# Altium integrated library STMicroelectronics STM32 F2.IntLib: 94 symbols (part 17 of 18)
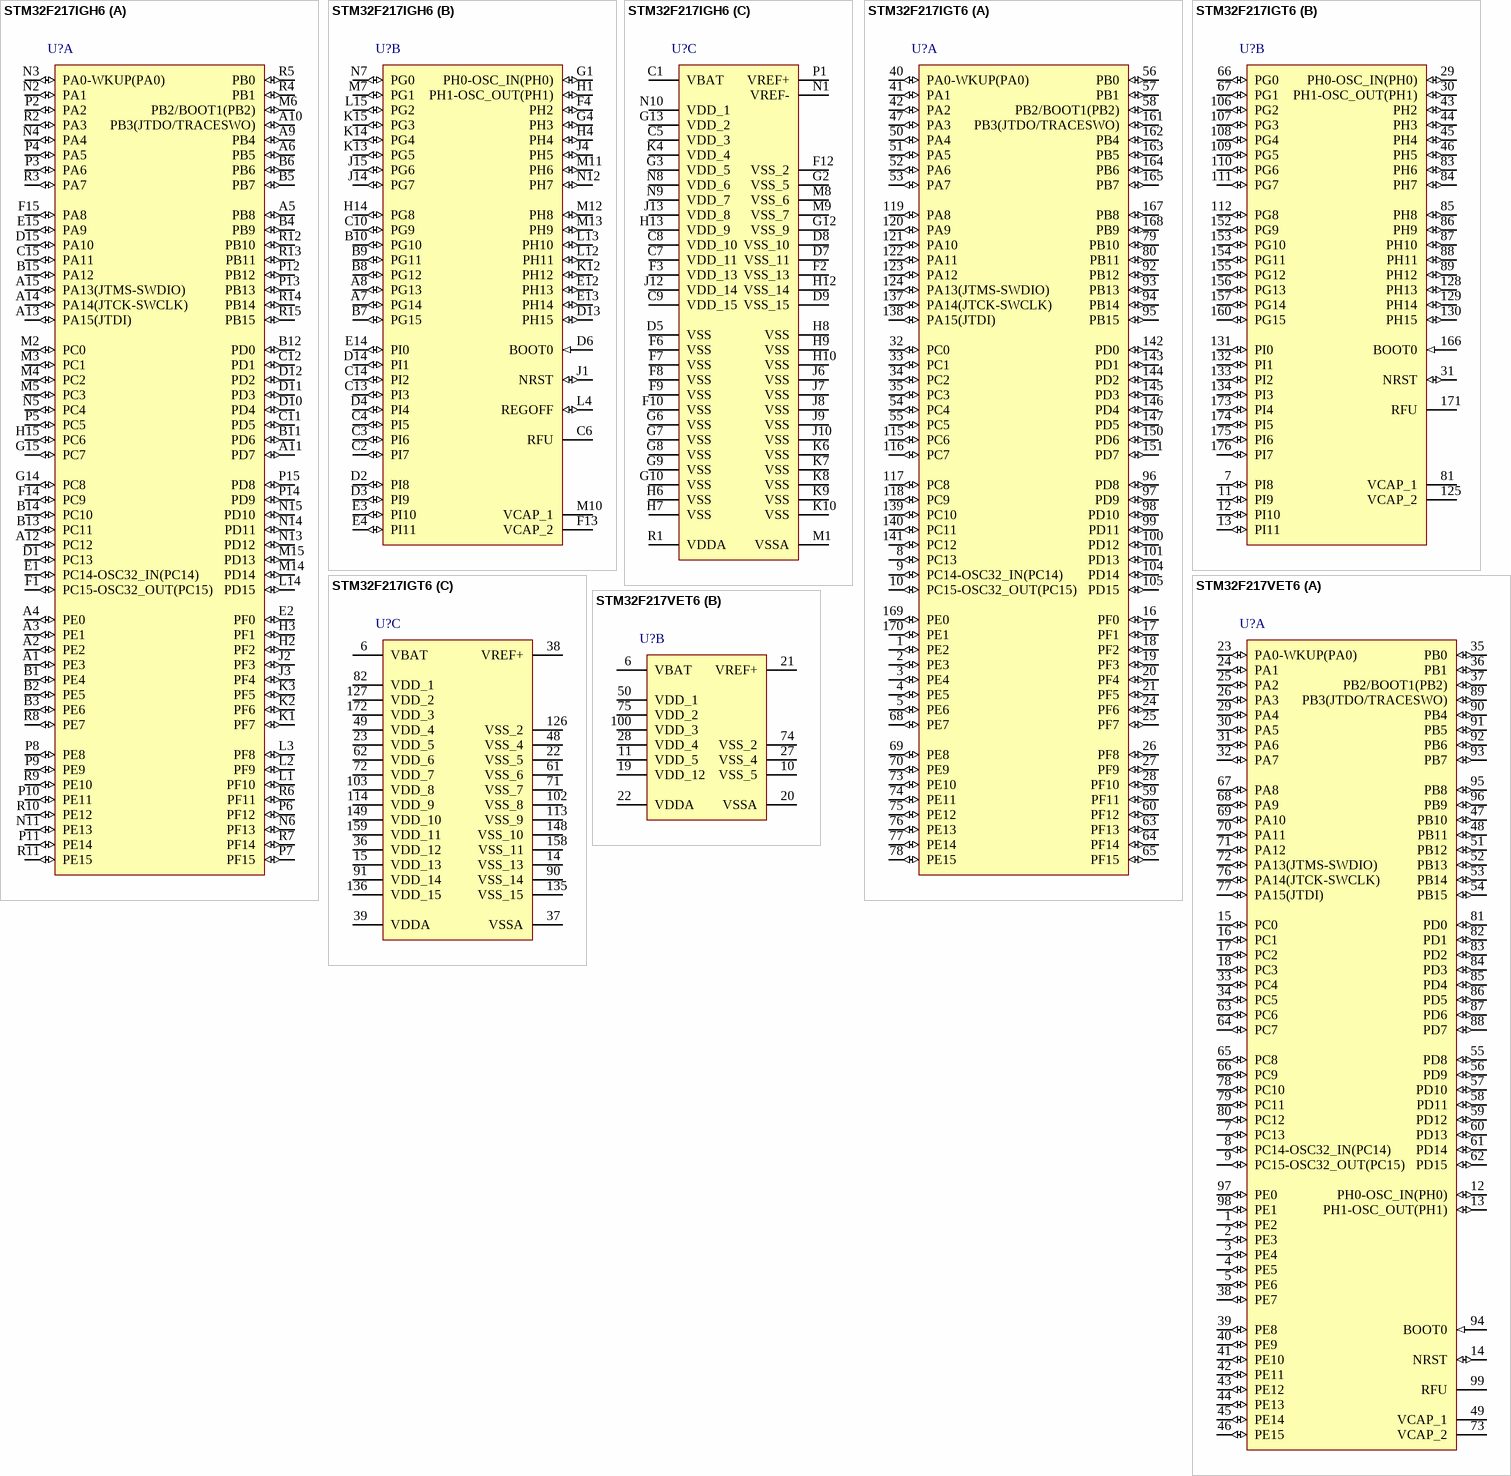
[diagram p40: symbols STM32F217IGH6 to STM32F217VET6]

## STM32F217VET6
designator U?
ARM Cortex-M3 32-bit MCU, 512 KB Flash, 128 KB Internal RAM, 82 I/Os, 100-pin LQFP, -40 to 85 degC, Tray; PartNumber: STM32F217VET6; D/A Converter: 2x12-bit (2 Channel); FLASH Size (Prog) (kB): 512; I/Os (High Current): 82; Internal RAM Size (kB): 128; Operating Frequency(F) (Processor speed) (MHz): 120; Supply Voltage(Vcc) min (V): 1.8; DatasheetVersion: Rev. 8; PackageVersion: Rev. 1, 06/2013; PackageReference: LQFP100; PackageDescription: 100-Pin Low Profile Quad Flat Package, 14 x 14 mm Body, 0.5 mm Pitch; Supplier 1: Digi-Key; Supplier Part Number 1: 497-11186-ND; Supplier 2: Farnell; Supplier Part Number 2: 2333243; Supplier 3: Newark; Supplier Part Number 3: 99W9861; Supplier 4: Newark; Supplier Part Number 4: 47T9357; Supplier 5: Mouser; Supplier Part Number 5: 511-STM32F217VET6; Core: ARM Cortex-M3; Packing: Tray; Mounting Technology: Surface Mount; ComponentLink1Description: Manufacturer URL; ComponentLink1URL: http://www.st.com/web/en/home.html; ComponentLink2Description: Datasheet; ComponentLink2URL: http://www.st.com/st-web-ui/static/active/en/resource/technical/document/datasheet/CD00263874.pdf; ComponentLink3Description: Package Specification; ComponentLink3URL: http://www.st.com/st-web-ui/static/active/en/resource/technical/document/data_brief/DM00071938.pdf
footprint STM-LQFP100_N (Thin QFP, 100-Leads, Body 14x14mm, Pitch 0.5mm, IPC Medium Density)
footprint STM-LQFP100_L (Thin QFP, 100-Leads, Body 14x14mm, Pitch 0.5mm, IPC High Density)
footprint STM-LQFP100_M (Thin QFP, 100-Leads, Body 14x14mm, Pitch 0.5mm, IPC Low Density)
footprint STM-LQFP100_V (Thin QFP, 100-Leads, Body 14x14mm, Pitch 0.5mm, ST Recommended)
part A pins: 1 PE2 (io) "PE2/TRACECLK/FSMC_A23/ETH_MII_TXD3/EVENTOUT", 2 PE3 (io) "PE3/TRACED0/FSMC_A19/EVENTOUT", 3 PE4 (io) "PE4/TRACED1/FSMC_A20/DCMI_D4/EVENTOUT", 4 PE5 (io) "PE5/TRACED2/FSMC_A21/TIM9_CH1/DCMI_D6/EVENTOUT", 5 PE6 (io) "PE6/TRACED3/FSMC_A22/TIM9_CH2/DCMI_D7/EVENTOUT", 7 PC13 (io) "PC13/EVENTOUT/RTC_AF1", 8 PC14-OSC32_IN(PC14) (io) "PC14-OSC32_IN/PC14/EVENTOUT/OSC32_IN", 9 PC15-OSC32_OUT(PC15) (io) "PC15-OSC32_OUT/PC15/EVENTOUT/OSC32_OUT", 12 PH0-OSC_IN(PH0) (io) "PH0-OSC_IN(PH0)/PH0/EVENTOUT/OSC_IN", 13 PH1-OSC_OUT(PH1) (io) "PH1-OSC_OUT(PH1)/PH1/EVENTOUT/OSC_OUT", 14 NRST (io), 15 PC0 (io) "PC0/OTG_HS_ULPI_STP/EVENTOUT/ADC123_IN10", 16 PC1 (io) "PC1/ETH_MDC/EVENTOUT/ADC123_IN11", 17 PC2 (io) "PC2/SPI2_MISO/OTG_HS_ULPI_DIR/ETH_MII_TXD2/EVENTOUT/ADC123_IN12", 18 PC3 (io) "PC3/SPI2_MOSI/I2S2_SD/OTG_HS_ULPI_NXT/ETH_MII_TX_CLK/EVENTOUT/ADC123_IN13", 23 PA0-WKUP(PA0) (io) "PA0-WKUP(PA0)/USART2_CTS/UART4_TX/ETH_MII_CRS/TIM2_CH1_ETR/TIM5_CH1/TIM8_ETR/EVENTOUT/ADC123_IN0/WKUP", 24 PA1 (io) "PA1/USART2_RTS/UART4_RX/ETH_RMII_REF_CLK/ETH_MII_RX_CLK/TIM5_CH2/TIM2_CH2/EVENTOUT/ADC123_IN1", 25 PA2 (io) "PA2/USART2_TX/TIM5_CH3/TIM9_CH1/TIM2_CH3/ETH_MDIO/EVENTOUT/ADC123_IN2", 26 PA3 (io) "PA3/USART2_RX/TIM5_CH4/TIM9_CH2/TIM2_CH4/OTG_HS_ULPI_D0/ETH_MII_COL/EVENTOUT/ADC123_IN3", 29 PA4 (io) "PA4/SPI1_NSS/SPI3_NSS/USART2_CK/DCMI_HSYNC/OTG_HS_SOF/I2S3_WS/EVENTOUT/ADC12_IN4/DAC_OUT1", 30 PA5 (io) "PA5/SPI1_SCK/OTG_HS_ULPI_CK/TIM2_CH1_ETR/TIM8_CH1N/EVENTOUT/ADC12_IN5/DAC_OUT2", 31 PA6 (io) "PA6/SPI1_MISO/TIM8_BKIN/TIM13_CH1/DCMI_PIXCLK/TIM3_CH1/TIM1_BKIN/EVENTOUT/ADC12_IN6", 32 PA7 (io) "PA7/SPI1_MOSI/TIM8_CH1N/TIM14_CH1/TIM3_CH2/ETH_MII_RX_DV/TIM1_CH1N/ETH_RMII_CRS_DV/EVENTOUT/ADC12_IN7", 33 PC4 (io) "PC4/ETH_RMII_RX_D0/ETH_MII_RX_D0/EVENTOUT/ADC12_IN14", 34 PC5 (io) "PC5/ETH_RMII_RX_D1/ETH_MII_RX_D1/EVENTOUT/ADC12_IN15", 35 PB0 (io) "PB0/TIM3_CH3/TIM8_CH2N/OTG_HS_ULPI_D1/ETH_MII_RXD2/TIM1_CH2N/EVENTOUT/ADC12_IN8", 36 PB1 (io) "PB1/TIM3_CH4/TIM8_CH3N/OTG_HS_ULPI_D2/ETH_MII_RXD3/TIM1_CH3N/EVENTOUT/ADC12_IN9", 37 PB2/BOOT1(PB2) (io) "PB2/PB2-BOOT1/EVENTOUT", 38 PE7 (io) "PE7/FSMC_D4/TIM1_ETR/EVENTOUT", 39 PE8 (io) "PE8/FSMC_D5/TIM1_CH1N/EVENTOUT", 40 PE9 (io) "PE9/FSMC_D6/TIM1_CH1/EVENTOUT", 41 PE10 (io) "PE10/FSMC_D7/TIM1_CH2N/EVENTOUT", 42 PE11 (io) "PE11/FSMC_D8/TIM1_CH2/EVENTOUT", 43 PE12 (io) "PE12/FSMC_D9/TIM1_CH3N/EVENTOUT", 44 PE13 (io) "PE13/FSMC_D10/TIM1_CH3/EVENTOUT", 45 PE14 (io) "PE14/FSMC_D11/TIM1_CH4/EVENTOUT", 46 PE15 (io) "PE15/FSMC_D12/TIM1_BKIN/EVENTOUT", 47 PB10 (io) "PB10/SPI2_SCK/I2S2_SCK/I2C2_SCL/USART3_TX/OTG_HS_ULPI_D3/ETH_MII_RX_ER/TIM2_CH3/EVENTOUT", 48 PB11 (io) "PB11/I2C2_SDA/USART3_RX/OTG_HS_ULPI_D4/ETH_RMII_TX_EN/ETH_MII_TX_EN/TIM2_CH4/EVENTOUT", 49 VCAP_1 (power), 51 PB12 (io) "PB12/SPI2_NSS/I2S2_WS/I2C2_SMBA/USART3_CK/TIM1_BKIN/CAN2_RX/OTG_HS_ULPI_D5/ETH_RMII_TXD0/ETH_MII_TXD0/OTG_HS_ID/EVENTOUT", 52 PB13 (io) "PB13/SPI2_SCK/I2S2_SCK/USART3_CTS/TIM1_CH1N/CAN2_TX/OTG_HS_ULPI_D6/ETH_RMII_TXD1/ETH_MII_TXD1/EVENTOUT/OTG_HS_VBUS", 53 PB14 (io) "PB14/SPI2_MISO/TIM1_CH2N/TIM12_CH1/OTG_HS_DM/USART3_RTS/TIM8_CH2N/EVENTOUT", 54 PB15 (io) "PB15/SPI2_MOSI/I2S2_SD/TIM1_CH3N/TIM8_CH3N/TIM12_CH2/OTG_HS_DP/RTC_50Hz/EVENTOUT", 55 PD8 (io) "PD8/FSMC_D13/USART3_TX/EVENTOUT", 56 PD9 (io) "PD9/FSMC_D14/USART3_RX/EVENTOUT", 57 PD10 (io) "PD10/FSMC_D15/USART3_CK/EVENTOUT", 58 PD11 (io) "PD11/FSMC_A16/USART3_CTS/EVENTOUT", 59 PD12 (io) "PD12/FSMC_A17/TIM4_CH1/USART3_RTS/EVENTOUT", 60 PD13 (io) "PD13/FSMC_A18/TIM4_CH2/EVENTOUT", 61 PD14 (io) "PD14/FSMC_D0/TIM4_CH3/EVENTOUT", 62 PD15 (io) "PD15/FSMC_D1/TIM4_CH4/EVENTOUT", 63 PC6 (io) "PC6/I2S2_MCK/TIM8_CH1/SDIO_D6/USART6_TX/DCMI_D0/TIM3_CH1/EVENTOUT", 64 PC7 (io) "PC7/I2S3_MCK/TIM8_CH2/SDIO_D7/USART6_RX/DCMI_D1/TIM3_CH2/EVENTOUT", 65 PC8 (io) "PC8/TIM8_CH3/SDIO_D0/TIM3_CH3/USART6_CK/DCMI_D2/EVENTOUT", 66 PC9 (io) "PC9/I2S2_CKIN/I2S3_CKIN/MCO2/TIM8_CH4/SDIO_D1/I2C3_SDA/DCMI_D3/TIM3_CH4/EVENTOUT", 67 PA8 (io) "PA8/MCO1/USART1_CK/TIM1_CH1/I2C3_SCL/OTG_FS_SOF/EVENTOUT", 68 PA9 (io) "PA9/USART1_TX/TIM1_CH2/I2C3_SMBA/DCMI_D0/EVENTOUT/OTG_FS_VBUS", 69 PA10 (io) "PA10/USART1_RX/TIM1_CH3/OTG_FS_ID/DCMI_D1/EVENTOUT", 70 PA11 (io) "PA11/USART1_CTS/CAN1_RX/TIM1_CH4/OTG_FS_DM/EVENTOUT", 71 PA12 (io) "PA12/USART1_RTS/CAN1_TX/TIM1_ETR/OTG_FS_DP/EVENTOUT", 72 PA13(JTMS-SWDIO) (io) "PA13/JTMS-SWDIO/EVENTOUT", 73 VCAP_2 (power), 76 PA14(JTCK-SWCLK) (io) "PA14/JTCK-SWCLK/EVENTOUT", 77 PA15(JTDI) (io) "PA15/JTDI/SPI3_NSS/I2S3_WS/TIM2_CH1_ETR/SPI1_NSS/EVENTOUT", 78 PC10 (io) "PC10/SPI3_SCK/I2S3_SCK/UART4_TX/SDIO_D2/DCMI_D8/USART3_TX/EVENTOUT", 79 PC11 (io) "PC11/UART4_RX/SPI3_MISO/SDIO_D3/DCMI_D4/USART3_RX/EVENTOUT", 80 PC12 (io) "PC12/UART5_TX/SDIO_CK/DCMI_D9/SPI3_MOSI/I2S3_SD/USART3_CK/EVENTOUT", 81 PD0 (io) "PD0/FSMC_D2/CAN1_RX/EVENTOUT", 82 PD1 (io) "PD1/FSMC_D3/CAN1_TX/EVENTOUT", 83 PD2 (io) "PD2/TIM3_ETR/UART5_RX/SDIO_CMD/DCMI_D11/EVENTOUT", 84 PD3 (io) "PD3/FSMC_CLK/USART2_CTS/EVENTOUT", 85 PD4 (io) "PD4/FSMC_NOE/USART2_RTS/EVENTOUT", 86 PD5 (io) "PD5/FSMC_NWE/USART2_TX/EVENTOUT", 87 PD6 (io) "PD6/FSMC_NWAIT/USART2_RX/EVENTOUT", 88 PD7 (io) "PD7/USART2_CK/FSMC_NE1/FSMC_NCE2/EVENTOUT", 89 PB3(JTDO/TRACESWO) (io) "PB3/JTDO/TRACESWO/SPI3_SCK/I2S3_SCK/TIM2_CH2/SPI1_SCK/EVENTOUT", 90 PB4 (io) "PB4/NJTRST/SPI3_MISO/TIM3_CH1/SPI1_MISO/EVENTOUT", 91 PB5 (io) "PB5/I2C1_SMBA/CAN2_RX/OTG_HS_ULPI_D7/ETH_PPS_OUT/TIM3_CH2/SPI1_MOSI/SPI3_MOSI/DCMI_D10/I2S3_SD/EVENTOUT", 92 PB6 (io) "PB6/I2C1_SCL/TIM4_CH1/CAN2_TX/DCMI_D5/USART1_TX/EVENTOUT", 93 PB7 (io) "PB7/I2C1_SDA/FSMC_NL/DCMI_VSYNC/USART1_RX/TIM4_CH2/EVENTOUT", 94 BOOT0 (in) "BOOT0/VPP", 95 PB8 (io) "PB8/TIM4_CH3/SDIO_D4/TIM10_CH1/DCMI_D6/ETH_MII_TXD3/I2C1_SCL/CAN1_RX/EVENTOUT", 96 PB9 (io) "PB9/SPI2_NSS/I2S2_WS/TIM4_CH4/TIM11_CH1/SDIO_D5/DCMI_D7/I2C1_SDA/CAN1_TX/EVENTOUT", 97 PE0 (io) "PE0/TIM4_ETR/FSMC_NBL0/DCMI_D2/EVENTOUT", 98 PE1 (io) "PE1/FSMC_NBL1/DCMI_D3/EVENTOUT", 99 RFU
part B pins: 6 VBAT (power), 10 VSS_5 (power), 11 VDD_5 (power), 19 VDD_12 (power), 20 VSSA (power), 21 VREF+ (power), 22 VDDA (power), 27 VSS_4 (power), 28 VDD_4 (power), 50 VDD_1 (power), 74 VSS_2 (power), 75 VDD_2 (power), 100 VDD_3 (power)

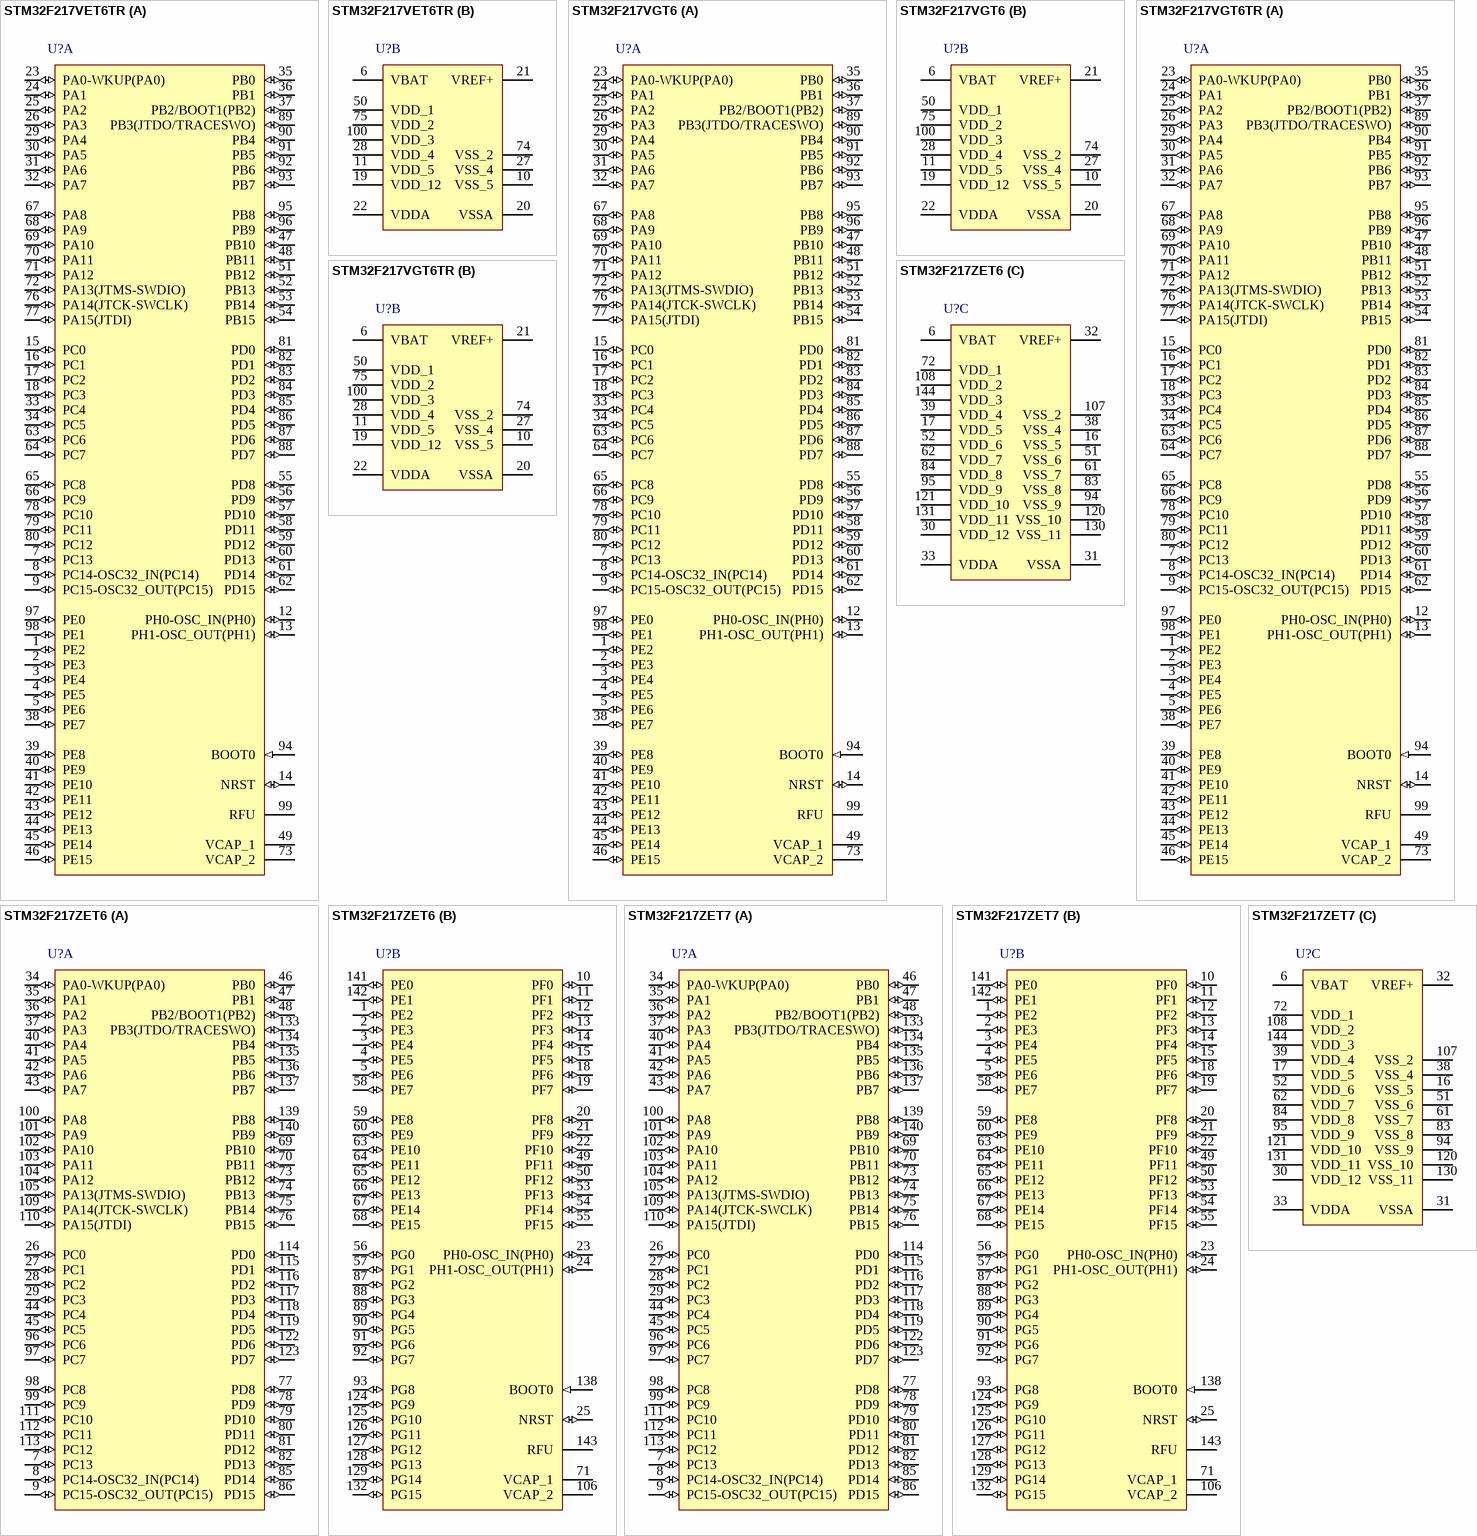
[diagram p23: symbols STM32F217VET6TR to STM32F217ZET7]

## STM32F217VET6TR
designator U?
ARM Cortex-M3 32-bit MCU, 512 KB Flash, 128 KB Internal RAM, 82 I/Os, 100-pin LQFP, -40 to 85 degC, Tape and Reel; PartNumber: STM32F217VET6TR; D/A Converter: 2x12-bit (2 Channel); FLASH Size (Prog) (kB): 512; I/Os (High Current): 82; Internal RAM Size (kB): 128; Operating Frequency(F) (Processor speed) (MHz): 120; Supply Voltage(Vcc) min (V): 1.8; DatasheetVersion: Rev. 8; PackageVersion: Rev. 1, 06/2013; PackageReference: LQFP100; PackageDescription: 100-Pin Low Profile Quad Flat Package, 14 x 14 mm Body, 0.5 mm Pitch; Supplier 1: Digi-Key; Supplier Part Number 1: STM32F217VET6TR-ND; Supplier 2: Newark; Supplier Part Number 2: 43W6525; Supplier 3: Mouser; Supplier Part Number 3: 511-STM32F217VET6TR; Core: ARM Cortex-M3; Packing: Tape and Reel; Mounting Technology: Surface Mount; ComponentLink1Description: Manufacturer URL; ComponentLink1URL: http://www.st.com/web/en/home.html; ComponentLink2Description: Datasheet; ComponentLink2URL: http://www.st.com/st-web-ui/static/active/en/resource/technical/document/datasheet/CD00263874.pdf; ComponentLink3Description: Package Specification; ComponentLink3URL: http://www.st.com/st-web-ui/static/active/en/resource/technical/document/data_brief/DM00071938.pdf
footprint STM-LQFP100_N (Thin QFP, 100-Leads, Body 14x14mm, Pitch 0.5mm, IPC Medium Density)
footprint STM-LQFP100_L (Thin QFP, 100-Leads, Body 14x14mm, Pitch 0.5mm, IPC High Density)
footprint STM-LQFP100_M (Thin QFP, 100-Leads, Body 14x14mm, Pitch 0.5mm, IPC Low Density)
footprint STM-LQFP100_V (Thin QFP, 100-Leads, Body 14x14mm, Pitch 0.5mm, ST Recommended)
part A pins: 1 PE2 (io) "PE2/TRACECLK/FSMC_A23/ETH_MII_TXD3/EVENTOUT", 2 PE3 (io) "PE3/TRACED0/FSMC_A19/EVENTOUT", 3 PE4 (io) "PE4/TRACED1/FSMC_A20/DCMI_D4/EVENTOUT", 4 PE5 (io) "PE5/TRACED2/FSMC_A21/TIM9_CH1/DCMI_D6/EVENTOUT", 5 PE6 (io) "PE6/TRACED3/FSMC_A22/TIM9_CH2/DCMI_D7/EVENTOUT", 7 PC13 (io) "PC13/EVENTOUT/RTC_AF1", 8 PC14-OSC32_IN(PC14) (io) "PC14-OSC32_IN/PC14/EVENTOUT/OSC32_IN", 9 PC15-OSC32_OUT(PC15) (io) "PC15-OSC32_OUT/PC15/EVENTOUT/OSC32_OUT", 12 PH0-OSC_IN(PH0) (io) "PH0-OSC_IN(PH0)/PH0/EVENTOUT/OSC_IN", 13 PH1-OSC_OUT(PH1) (io) "PH1-OSC_OUT(PH1)/PH1/EVENTOUT/OSC_OUT", 14 NRST (io), 15 PC0 (io) "PC0/OTG_HS_ULPI_STP/EVENTOUT/ADC123_IN10", 16 PC1 (io) "PC1/ETH_MDC/EVENTOUT/ADC123_IN11", 17 PC2 (io) "PC2/SPI2_MISO/OTG_HS_ULPI_DIR/ETH_MII_TXD2/EVENTOUT/ADC123_IN12", 18 PC3 (io) "PC3/SPI2_MOSI/I2S2_SD/OTG_HS_ULPI_NXT/ETH_MII_TX_CLK/EVENTOUT/ADC123_IN13", 23 PA0-WKUP(PA0) (io) "PA0-WKUP(PA0)/USART2_CTS/UART4_TX/ETH_MII_CRS/TIM2_CH1_ETR/TIM5_CH1/TIM8_ETR/EVENTOUT/ADC123_IN0/WKUP", 24 PA1 (io) "PA1/USART2_RTS/UART4_RX/ETH_RMII_REF_CLK/ETH_MII_RX_CLK/TIM5_CH2/TIM2_CH2/EVENTOUT/ADC123_IN1", 25 PA2 (io) "PA2/USART2_TX/TIM5_CH3/TIM9_CH1/TIM2_CH3/ETH_MDIO/EVENTOUT/ADC123_IN2", 26 PA3 (io) "PA3/USART2_RX/TIM5_CH4/TIM9_CH2/TIM2_CH4/OTG_HS_ULPI_D0/ETH_MII_COL/EVENTOUT/ADC123_IN3", 29 PA4 (io) "PA4/SPI1_NSS/SPI3_NSS/USART2_CK/DCMI_HSYNC/OTG_HS_SOF/I2S3_WS/EVENTOUT/ADC12_IN4/DAC_OUT1", 30 PA5 (io) "PA5/SPI1_SCK/OTG_HS_ULPI_CK/TIM2_CH1_ETR/TIM8_CH1N/EVENTOUT/ADC12_IN5/DAC_OUT2", 31 PA6 (io) "PA6/SPI1_MISO/TIM8_BKIN/TIM13_CH1/DCMI_PIXCLK/TIM3_CH1/TIM1_BKIN/EVENTOUT/ADC12_IN6", 32 PA7 (io) "PA7/SPI1_MOSI/TIM8_CH1N/TIM14_CH1/TIM3_CH2/ETH_MII_RX_DV/TIM1_CH1N/ETH_RMII_CRS_DV/EVENTOUT/ADC12_IN7", 33 PC4 (io) "PC4/ETH_RMII_RX_D0/ETH_MII_RX_D0/EVENTOUT/ADC12_IN14", 34 PC5 (io) "PC5/ETH_RMII_RX_D1/ETH_MII_RX_D1/EVENTOUT/ADC12_IN15", 35 PB0 (io) "PB0/TIM3_CH3/TIM8_CH2N/OTG_HS_ULPI_D1/ETH_MII_RXD2/TIM1_CH2N/EVENTOUT/ADC12_IN8", 36 PB1 (io) "PB1/TIM3_CH4/TIM8_CH3N/OTG_HS_ULPI_D2/ETH_MII_RXD3/TIM1_CH3N/EVENTOUT/ADC12_IN9", 37 PB2/BOOT1(PB2) (io) "PB2/PB2-BOOT1/EVENTOUT", 38 PE7 (io) "PE7/FSMC_D4/TIM1_ETR/EVENTOUT", 39 PE8 (io) "PE8/FSMC_D5/TIM1_CH1N/EVENTOUT", 40 PE9 (io) "PE9/FSMC_D6/TIM1_CH1/EVENTOUT", 41 PE10 (io) "PE10/FSMC_D7/TIM1_CH2N/EVENTOUT", 42 PE11 (io) "PE11/FSMC_D8/TIM1_CH2/EVENTOUT", 43 PE12 (io) "PE12/FSMC_D9/TIM1_CH3N/EVENTOUT", 44 PE13 (io) "PE13/FSMC_D10/TIM1_CH3/EVENTOUT", 45 PE14 (io) "PE14/FSMC_D11/TIM1_CH4/EVENTOUT", 46 PE15 (io) "PE15/FSMC_D12/TIM1_BKIN/EVENTOUT", 47 PB10 (io) "PB10/SPI2_SCK/I2S2_SCK/I2C2_SCL/USART3_TX/OTG_HS_ULPI_D3/ETH_MII_RX_ER/TIM2_CH3/EVENTOUT", 48 PB11 (io) "PB11/I2C2_SDA/USART3_RX/OTG_HS_ULPI_D4/ETH_RMII_TX_EN/ETH_MII_TX_EN/TIM2_CH4/EVENTOUT", 49 VCAP_1 (power), 51 PB12 (io) "PB12/SPI2_NSS/I2S2_WS/I2C2_SMBA/USART3_CK/TIM1_BKIN/CAN2_RX/OTG_HS_ULPI_D5/ETH_RMII_TXD0/ETH_MII_TXD0/OTG_HS_ID/EVENTOUT", 52 PB13 (io) "PB13/SPI2_SCK/I2S2_SCK/USART3_CTS/TIM1_CH1N/CAN2_TX/OTG_HS_ULPI_D6/ETH_RMII_TXD1/ETH_MII_TXD1/EVENTOUT/OTG_HS_VBUS", 53 PB14 (io) "PB14/SPI2_MISO/TIM1_CH2N/TIM12_CH1/OTG_HS_DM/USART3_RTS/TIM8_CH2N/EVENTOUT", 54 PB15 (io) "PB15/SPI2_MOSI/I2S2_SD/TIM1_CH3N/TIM8_CH3N/TIM12_CH2/OTG_HS_DP/RTC_50Hz/EVENTOUT", 55 PD8 (io) "PD8/FSMC_D13/USART3_TX/EVENTOUT", 56 PD9 (io) "PD9/FSMC_D14/USART3_RX/EVENTOUT", 57 PD10 (io) "PD10/FSMC_D15/USART3_CK/EVENTOUT", 58 PD11 (io) "PD11/FSMC_A16/USART3_CTS/EVENTOUT", 59 PD12 (io) "PD12/FSMC_A17/TIM4_CH1/USART3_RTS/EVENTOUT", 60 PD13 (io) "PD13/FSMC_A18/TIM4_CH2/EVENTOUT", 61 PD14 (io) "PD14/FSMC_D0/TIM4_CH3/EVENTOUT", 62 PD15 (io) "PD15/FSMC_D1/TIM4_CH4/EVENTOUT", 63 PC6 (io) "PC6/I2S2_MCK/TIM8_CH1/SDIO_D6/USART6_TX/DCMI_D0/TIM3_CH1/EVENTOUT", 64 PC7 (io) "PC7/I2S3_MCK/TIM8_CH2/SDIO_D7/USART6_RX/DCMI_D1/TIM3_CH2/EVENTOUT", 65 PC8 (io) "PC8/TIM8_CH3/SDIO_D0/TIM3_CH3/USART6_CK/DCMI_D2/EVENTOUT", 66 PC9 (io) "PC9/I2S2_CKIN/I2S3_CKIN/MCO2/TIM8_CH4/SDIO_D1/I2C3_SDA/DCMI_D3/TIM3_CH4/EVENTOUT", 67 PA8 (io) "PA8/MCO1/USART1_CK/TIM1_CH1/I2C3_SCL/OTG_FS_SOF/EVENTOUT", 68 PA9 (io) "PA9/USART1_TX/TIM1_CH2/I2C3_SMBA/DCMI_D0/EVENTOUT/OTG_FS_VBUS", 69 PA10 (io) "PA10/USART1_RX/TIM1_CH3/OTG_FS_ID/DCMI_D1/EVENTOUT", 70 PA11 (io) "PA11/USART1_CTS/CAN1_RX/TIM1_CH4/OTG_FS_DM/EVENTOUT", 71 PA12 (io) "PA12/USART1_RTS/CAN1_TX/TIM1_ETR/OTG_FS_DP/EVENTOUT", 72 PA13(JTMS-SWDIO) (io) "PA13/JTMS-SWDIO/EVENTOUT", 73 VCAP_2 (power), 76 PA14(JTCK-SWCLK) (io) "PA14/JTCK-SWCLK/EVENTOUT", 77 PA15(JTDI) (io) "PA15/JTDI/SPI3_NSS/I2S3_WS/TIM2_CH1_ETR/SPI1_NSS/EVENTOUT", 78 PC10 (io) "PC10/SPI3_SCK/I2S3_SCK/UART4_TX/SDIO_D2/DCMI_D8/USART3_TX/EVENTOUT", 79 PC11 (io) "PC11/UART4_RX/SPI3_MISO/SDIO_D3/DCMI_D4/USART3_RX/EVENTOUT", 80 PC12 (io) "PC12/UART5_TX/SDIO_CK/DCMI_D9/SPI3_MOSI/I2S3_SD/USART3_CK/EVENTOUT", 81 PD0 (io) "PD0/FSMC_D2/CAN1_RX/EVENTOUT", 82 PD1 (io) "PD1/FSMC_D3/CAN1_TX/EVENTOUT", 83 PD2 (io) "PD2/TIM3_ETR/UART5_RX/SDIO_CMD/DCMI_D11/EVENTOUT", 84 PD3 (io) "PD3/FSMC_CLK/USART2_CTS/EVENTOUT", 85 PD4 (io) "PD4/FSMC_NOE/USART2_RTS/EVENTOUT", 86 PD5 (io) "PD5/FSMC_NWE/USART2_TX/EVENTOUT", 87 PD6 (io) "PD6/FSMC_NWAIT/USART2_RX/EVENTOUT", 88 PD7 (io) "PD7/USART2_CK/FSMC_NE1/FSMC_NCE2/EVENTOUT", 89 PB3(JTDO/TRACESWO) (io) "PB3/JTDO/TRACESWO/SPI3_SCK/I2S3_SCK/TIM2_CH2/SPI1_SCK/EVENTOUT", 90 PB4 (io) "PB4/NJTRST/SPI3_MISO/TIM3_CH1/SPI1_MISO/EVENTOUT", 91 PB5 (io) "PB5/I2C1_SMBA/CAN2_RX/OTG_HS_ULPI_D7/ETH_PPS_OUT/TIM3_CH2/SPI1_MOSI/SPI3_MOSI/DCMI_D10/I2S3_SD/EVENTOUT", 92 PB6 (io) "PB6/I2C1_SCL/TIM4_CH1/CAN2_TX/DCMI_D5/USART1_TX/EVENTOUT", 93 PB7 (io) "PB7/I2C1_SDA/FSMC_NL/DCMI_VSYNC/USART1_RX/TIM4_CH2/EVENTOUT", 94 BOOT0 (in) "BOOT0/VPP", 95 PB8 (io) "PB8/TIM4_CH3/SDIO_D4/TIM10_CH1/DCMI_D6/ETH_MII_TXD3/I2C1_SCL/CAN1_RX/EVENTOUT", 96 PB9 (io) "PB9/SPI2_NSS/I2S2_WS/TIM4_CH4/TIM11_CH1/SDIO_D5/DCMI_D7/I2C1_SDA/CAN1_TX/EVENTOUT", 97 PE0 (io) "PE0/TIM4_ETR/FSMC_NBL0/DCMI_D2/EVENTOUT", 98 PE1 (io) "PE1/FSMC_NBL1/DCMI_D3/EVENTOUT", 99 RFU
part B pins: 6 VBAT (power), 10 VSS_5 (power), 11 VDD_5 (power), 19 VDD_12 (power), 20 VSSA (power), 21 VREF+ (power), 22 VDDA (power), 27 VSS_4 (power), 28 VDD_4 (power), 50 VDD_1 (power), 74 VSS_2 (power), 75 VDD_2 (power), 100 VDD_3 (power)

## STM32F217VGT6
designator U?
ARM Cortex-M3 32-bit MCU, 1024 KB Flash, 128 KB Internal RAM, 82 I/Os, 100-pin LQFP, -40 to 85 degC, Tray; PartNumber: STM32F217VGT6; D/A Converter: 2x12-bit (2 Channel); FLASH Size (Prog) (kB): 1024; I/Os (High Current): 82; Internal RAM Size (kB): 128; Operating Frequency(F) (Processor speed) (MHz): 120; Supply Voltage(Vcc) min (V): 1.8; DatasheetVersion: Rev. 8; PackageVersion: Rev. 1, 06/2013; PackageReference: LQFP100; PackageDescription: 100-Pin Low Profile Quad Flat Package, 14 x 14 mm Body, 0.5 mm Pitch; Supplier 1: Digi-Key; Supplier Part Number 1: 497-11187-ND; Supplier 2: Farnell; Supplier Part Number 2: 2333244; Supplier 3: Newark; Supplier Part Number 3: 99W9862; Supplier 4: Newark; Supplier Part Number 4: 47T9358; Supplier 5: Mouser; Supplier Part Number 5: 511-STM32F217VGT6; Core: ARM Cortex-M3; Packing: Tray; Mounting Technology: Surface Mount; ComponentLink1Description: Manufacturer URL; ComponentLink1URL: http://www.st.com/web/en/home.html; ComponentLink2Description: Datasheet; ComponentLink2URL: http://www.st.com/st-web-ui/static/active/en/resource/technical/document/datasheet/CD00263874.pdf; ComponentLink3Description: Package Specification; ComponentLink3URL: http://www.st.com/st-web-ui/static/active/en/resource/technical/document/data_brief/DM00071938.pdf
footprint STM-LQFP100_N (Thin QFP, 100-Leads, Body 14x14mm, Pitch 0.5mm, IPC Medium Density)
footprint STM-LQFP100_L (Thin QFP, 100-Leads, Body 14x14mm, Pitch 0.5mm, IPC High Density)
footprint STM-LQFP100_M (Thin QFP, 100-Leads, Body 14x14mm, Pitch 0.5mm, IPC Low Density)
footprint STM-LQFP100_V (Thin QFP, 100-Leads, Body 14x14mm, Pitch 0.5mm, ST Recommended)
part A pins: 1 PE2 (io) "PE2/TRACECLK/FSMC_A23/ETH_MII_TXD3/EVENTOUT", 2 PE3 (io) "PE3/TRACED0/FSMC_A19/EVENTOUT", 3 PE4 (io) "PE4/TRACED1/FSMC_A20/DCMI_D4/EVENTOUT", 4 PE5 (io) "PE5/TRACED2/FSMC_A21/TIM9_CH1/DCMI_D6/EVENTOUT", 5 PE6 (io) "PE6/TRACED3/FSMC_A22/TIM9_CH2/DCMI_D7/EVENTOUT", 7 PC13 (io) "PC13/EVENTOUT/RTC_AF1", 8 PC14-OSC32_IN(PC14) (io) "PC14-OSC32_IN/PC14/EVENTOUT/OSC32_IN", 9 PC15-OSC32_OUT(PC15) (io) "PC15-OSC32_OUT/PC15/EVENTOUT/OSC32_OUT", 12 PH0-OSC_IN(PH0) (io) "PH0-OSC_IN(PH0)/PH0/EVENTOUT/OSC_IN", 13 PH1-OSC_OUT(PH1) (io) "PH1-OSC_OUT(PH1)/PH1/EVENTOUT/OSC_OUT", 14 NRST (io), 15 PC0 (io) "PC0/OTG_HS_ULPI_STP/EVENTOUT/ADC123_IN10", 16 PC1 (io) "PC1/ETH_MDC/EVENTOUT/ADC123_IN11", 17 PC2 (io) "PC2/SPI2_MISO/OTG_HS_ULPI_DIR/ETH_MII_TXD2/EVENTOUT/ADC123_IN12", 18 PC3 (io) "PC3/SPI2_MOSI/I2S2_SD/OTG_HS_ULPI_NXT/ETH_MII_TX_CLK/EVENTOUT/ADC123_IN13", 23 PA0-WKUP(PA0) (io) "PA0-WKUP(PA0)/USART2_CTS/UART4_TX/ETH_MII_CRS/TIM2_CH1_ETR/TIM5_CH1/TIM8_ETR/EVENTOUT/ADC123_IN0/WKUP", 24 PA1 (io) "PA1/USART2_RTS/UART4_RX/ETH_RMII_REF_CLK/ETH_MII_RX_CLK/TIM5_CH2/TIM2_CH2/EVENTOUT/ADC123_IN1", 25 PA2 (io) "PA2/USART2_TX/TIM5_CH3/TIM9_CH1/TIM2_CH3/ETH_MDIO/EVENTOUT/ADC123_IN2", 26 PA3 (io) "PA3/USART2_RX/TIM5_CH4/TIM9_CH2/TIM2_CH4/OTG_HS_ULPI_D0/ETH_MII_COL/EVENTOUT/ADC123_IN3", 29 PA4 (io) "PA4/SPI1_NSS/SPI3_NSS/USART2_CK/DCMI_HSYNC/OTG_HS_SOF/I2S3_WS/EVENTOUT/ADC12_IN4/DAC_OUT1", 30 PA5 (io) "PA5/SPI1_SCK/OTG_HS_ULPI_CK/TIM2_CH1_ETR/TIM8_CH1N/EVENTOUT/ADC12_IN5/DAC_OUT2", 31 PA6 (io) "PA6/SPI1_MISO/TIM8_BKIN/TIM13_CH1/DCMI_PIXCLK/TIM3_CH1/TIM1_BKIN/EVENTOUT/ADC12_IN6", 32 PA7 (io) "PA7/SPI1_MOSI/TIM8_CH1N/TIM14_CH1/TIM3_CH2/ETH_MII_RX_DV/TIM1_CH1N/ETH_RMII_CRS_DV/EVENTOUT/ADC12_IN7", 33 PC4 (io) "PC4/ETH_RMII_RX_D0/ETH_MII_RX_D0/EVENTOUT/ADC12_IN14", 34 PC5 (io) "PC5/ETH_RMII_RX_D1/ETH_MII_RX_D1/EVENTOUT/ADC12_IN15", 35 PB0 (io) "PB0/TIM3_CH3/TIM8_CH2N/OTG_HS_ULPI_D1/ETH_MII_RXD2/TIM1_CH2N/EVENTOUT/ADC12_IN8", 36 PB1 (io) "PB1/TIM3_CH4/TIM8_CH3N/OTG_HS_ULPI_D2/ETH_MII_RXD3/TIM1_CH3N/EVENTOUT/ADC12_IN9", 37 PB2/BOOT1(PB2) (io) "PB2/PB2-BOOT1/EVENTOUT", 38 PE7 (io) "PE7/FSMC_D4/TIM1_ETR/EVENTOUT", 39 PE8 (io) "PE8/FSMC_D5/TIM1_CH1N/EVENTOUT", 40 PE9 (io) "PE9/FSMC_D6/TIM1_CH1/EVENTOUT", 41 PE10 (io) "PE10/FSMC_D7/TIM1_CH2N/EVENTOUT", 42 PE11 (io) "PE11/FSMC_D8/TIM1_CH2/EVENTOUT", 43 PE12 (io) "PE12/FSMC_D9/TIM1_CH3N/EVENTOUT", 44 PE13 (io) "PE13/FSMC_D10/TIM1_CH3/EVENTOUT", 45 PE14 (io) "PE14/FSMC_D11/TIM1_CH4/EVENTOUT", 46 PE15 (io) "PE15/FSMC_D12/TIM1_BKIN/EVENTOUT", 47 PB10 (io) "PB10/SPI2_SCK/I2S2_SCK/I2C2_SCL/USART3_TX/OTG_HS_ULPI_D3/ETH_MII_RX_ER/TIM2_CH3/EVENTOUT", 48 PB11 (io) "PB11/I2C2_SDA/USART3_RX/OTG_HS_ULPI_D4/ETH_RMII_TX_EN/ETH_MII_TX_EN/TIM2_CH4/EVENTOUT", 49 VCAP_1 (power), 51 PB12 (io) "PB12/SPI2_NSS/I2S2_WS/I2C2_SMBA/USART3_CK/TIM1_BKIN/CAN2_RX/OTG_HS_ULPI_D5/ETH_RMII_TXD0/ETH_MII_TXD0/OTG_HS_ID/EVENTOUT", 52 PB13 (io) "PB13/SPI2_SCK/I2S2_SCK/USART3_CTS/TIM1_CH1N/CAN2_TX/OTG_HS_ULPI_D6/ETH_RMII_TXD1/ETH_MII_TXD1/EVENTOUT/OTG_HS_VBUS", 53 PB14 (io) "PB14/SPI2_MISO/TIM1_CH2N/TIM12_CH1/OTG_HS_DM/USART3_RTS/TIM8_CH2N/EVENTOUT", 54 PB15 (io) "PB15/SPI2_MOSI/I2S2_SD/TIM1_CH3N/TIM8_CH3N/TIM12_CH2/OTG_HS_DP/RTC_50Hz/EVENTOUT", 55 PD8 (io) "PD8/FSMC_D13/USART3_TX/EVENTOUT", 56 PD9 (io) "PD9/FSMC_D14/USART3_RX/EVENTOUT", 57 PD10 (io) "PD10/FSMC_D15/USART3_CK/EVENTOUT", 58 PD11 (io) "PD11/FSMC_A16/USART3_CTS/EVENTOUT", 59 PD12 (io) "PD12/FSMC_A17/TIM4_CH1/USART3_RTS/EVENTOUT", 60 PD13 (io) "PD13/FSMC_A18/TIM4_CH2/EVENTOUT", 61 PD14 (io) "PD14/FSMC_D0/TIM4_CH3/EVENTOUT", 62 PD15 (io) "PD15/FSMC_D1/TIM4_CH4/EVENTOUT", 63 PC6 (io) "PC6/I2S2_MCK/TIM8_CH1/SDIO_D6/USART6_TX/DCMI_D0/TIM3_CH1/EVENTOUT", 64 PC7 (io) "PC7/I2S3_MCK/TIM8_CH2/SDIO_D7/USART6_RX/DCMI_D1/TIM3_CH2/EVENTOUT", 65 PC8 (io) "PC8/TIM8_CH3/SDIO_D0/TIM3_CH3/USART6_CK/DCMI_D2/EVENTOUT", 66 PC9 (io) "PC9/I2S2_CKIN/I2S3_CKIN/MCO2/TIM8_CH4/SDIO_D1/I2C3_SDA/DCMI_D3/TIM3_CH4/EVENTOUT", 67 PA8 (io) "PA8/MCO1/USART1_CK/TIM1_CH1/I2C3_SCL/OTG_FS_SOF/EVENTOUT", 68 PA9 (io) "PA9/USART1_TX/TIM1_CH2/I2C3_SMBA/DCMI_D0/EVENTOUT/OTG_FS_VBUS", 69 PA10 (io) "PA10/USART1_RX/TIM1_CH3/OTG_FS_ID/DCMI_D1/EVENTOUT", 70 PA11 (io) "PA11/USART1_CTS/CAN1_RX/TIM1_CH4/OTG_FS_DM/EVENTOUT", 71 PA12 (io) "PA12/USART1_RTS/CAN1_TX/TIM1_ETR/OTG_FS_DP/EVENTOUT", 72 PA13(JTMS-SWDIO) (io) "PA13/JTMS-SWDIO/EVENTOUT", 73 VCAP_2 (power), 76 PA14(JTCK-SWCLK) (io) "PA14/JTCK-SWCLK/EVENTOUT", 77 PA15(JTDI) (io) "PA15/JTDI/SPI3_NSS/I2S3_WS/TIM2_CH1_ETR/SPI1_NSS/EVENTOUT", 78 PC10 (io) "PC10/SPI3_SCK/I2S3_SCK/UART4_TX/SDIO_D2/DCMI_D8/USART3_TX/EVENTOUT", 79 PC11 (io) "PC11/UART4_RX/SPI3_MISO/SDIO_D3/DCMI_D4/USART3_RX/EVENTOUT", 80 PC12 (io) "PC12/UART5_TX/SDIO_CK/DCMI_D9/SPI3_MOSI/I2S3_SD/USART3_CK/EVENTOUT", 81 PD0 (io) "PD0/FSMC_D2/CAN1_RX/EVENTOUT", 82 PD1 (io) "PD1/FSMC_D3/CAN1_TX/EVENTOUT", 83 PD2 (io) "PD2/TIM3_ETR/UART5_RX/SDIO_CMD/DCMI_D11/EVENTOUT", 84 PD3 (io) "PD3/FSMC_CLK/USART2_CTS/EVENTOUT", 85 PD4 (io) "PD4/FSMC_NOE/USART2_RTS/EVENTOUT", 86 PD5 (io) "PD5/FSMC_NWE/USART2_TX/EVENTOUT", 87 PD6 (io) "PD6/FSMC_NWAIT/USART2_RX/EVENTOUT", 88 PD7 (io) "PD7/USART2_CK/FSMC_NE1/FSMC_NCE2/EVENTOUT", 89 PB3(JTDO/TRACESWO) (io) "PB3/JTDO/TRACESWO/SPI3_SCK/I2S3_SCK/TIM2_CH2/SPI1_SCK/EVENTOUT", 90 PB4 (io) "PB4/NJTRST/SPI3_MISO/TIM3_CH1/SPI1_MISO/EVENTOUT", 91 PB5 (io) "PB5/I2C1_SMBA/CAN2_RX/OTG_HS_ULPI_D7/ETH_PPS_OUT/TIM3_CH2/SPI1_MOSI/SPI3_MOSI/DCMI_D10/I2S3_SD/EVENTOUT", 92 PB6 (io) "PB6/I2C1_SCL/TIM4_CH1/CAN2_TX/DCMI_D5/USART1_TX/EVENTOUT", 93 PB7 (io) "PB7/I2C1_SDA/FSMC_NL/DCMI_VSYNC/USART1_RX/TIM4_CH2/EVENTOUT", 94 BOOT0 (in) "BOOT0/VPP", 95 PB8 (io) "PB8/TIM4_CH3/SDIO_D4/TIM10_CH1/DCMI_D6/ETH_MII_TXD3/I2C1_SCL/CAN1_RX/EVENTOUT", 96 PB9 (io) "PB9/SPI2_NSS/I2S2_WS/TIM4_CH4/TIM11_CH1/SDIO_D5/DCMI_D7/I2C1_SDA/CAN1_TX/EVENTOUT", 97 PE0 (io) "PE0/TIM4_ETR/FSMC_NBL0/DCMI_D2/EVENTOUT", 98 PE1 (io) "PE1/FSMC_NBL1/DCMI_D3/EVENTOUT", 99 RFU
part B pins: 6 VBAT (power), 10 VSS_5 (power), 11 VDD_5 (power), 19 VDD_12 (power), 20 VSSA (power), 21 VREF+ (power), 22 VDDA (power), 27 VSS_4 (power), 28 VDD_4 (power), 50 VDD_1 (power), 74 VSS_2 (power), 75 VDD_2 (power), 100 VDD_3 (power)

## STM32F217VGT6TR
designator U?
ARM Cortex-M3 32-bit MCU, 1024 KB Flash, 128 KB Internal RAM, 82 I/Os, 100-pin LQFP, -40 to 85 degC, Tape and Reel; PartNumber: STM32F217VGT6TR; D/A Converter: 2x12-bit (2 Channel); FLASH Size (Prog) (kB): 1024; I/Os (High Current): 82; Internal RAM Size (kB): 128; Operating Frequency(F) (Processor speed) (MHz): 120; Supply Voltage(Vcc) min (V): 1.8; DatasheetVersion: Rev. 8; PackageVersion: Rev. 1, 06/2013; PackageReference: LQFP100; PackageDescription: 100-Pin Low Profile Quad Flat Package, 14 x 14 mm Body, 0.5 mm Pitch; Supplier 1: Digi-Key; Supplier Part Number 1: STM32F217VGT6TR-ND; Supplier 2: Mouser; Supplier Part Number 2: 511-STM32F217VGT6TR; Core: ARM Cortex-M3; Packing: Tape and Reel; Mounting Technology: Surface Mount; ComponentLink1Description: Manufacturer URL; ComponentLink1URL: http://www.st.com/web/en/home.html; ComponentLink2Description: Datasheet; ComponentLink2URL: http://www.st.com/st-web-ui/static/active/en/resource/technical/document/datasheet/CD00263874.pdf; ComponentLink3Description: Package Specification; ComponentLink3URL: http://www.st.com/st-web-ui/static/active/en/resource/technical/document/data_brief/DM00071938.pdf
footprint STM-LQFP100_N (Thin QFP, 100-Leads, Body 14x14mm, Pitch 0.5mm, IPC Medium Density)
footprint STM-LQFP100_L (Thin QFP, 100-Leads, Body 14x14mm, Pitch 0.5mm, IPC High Density)
footprint STM-LQFP100_M (Thin QFP, 100-Leads, Body 14x14mm, Pitch 0.5mm, IPC Low Density)
footprint STM-LQFP100_V (Thin QFP, 100-Leads, Body 14x14mm, Pitch 0.5mm, ST Recommended)
part A pins: 1 PE2 (io) "PE2/TRACECLK/FSMC_A23/ETH_MII_TXD3/EVENTOUT", 2 PE3 (io) "PE3/TRACED0/FSMC_A19/EVENTOUT", 3 PE4 (io) "PE4/TRACED1/FSMC_A20/DCMI_D4/EVENTOUT", 4 PE5 (io) "PE5/TRACED2/FSMC_A21/TIM9_CH1/DCMI_D6/EVENTOUT", 5 PE6 (io) "PE6/TRACED3/FSMC_A22/TIM9_CH2/DCMI_D7/EVENTOUT", 7 PC13 (io) "PC13/EVENTOUT/RTC_AF1", 8 PC14-OSC32_IN(PC14) (io) "PC14-OSC32_IN/PC14/EVENTOUT/OSC32_IN", 9 PC15-OSC32_OUT(PC15) (io) "PC15-OSC32_OUT/PC15/EVENTOUT/OSC32_OUT", 12 PH0-OSC_IN(PH0) (io) "PH0-OSC_IN(PH0)/PH0/EVENTOUT/OSC_IN", 13 PH1-OSC_OUT(PH1) (io) "PH1-OSC_OUT(PH1)/PH1/EVENTOUT/OSC_OUT", 14 NRST (io), 15 PC0 (io) "PC0/OTG_HS_ULPI_STP/EVENTOUT/ADC123_IN10", 16 PC1 (io) "PC1/ETH_MDC/EVENTOUT/ADC123_IN11", 17 PC2 (io) "PC2/SPI2_MISO/OTG_HS_ULPI_DIR/ETH_MII_TXD2/EVENTOUT/ADC123_IN12", 18 PC3 (io) "PC3/SPI2_MOSI/I2S2_SD/OTG_HS_ULPI_NXT/ETH_MII_TX_CLK/EVENTOUT/ADC123_IN13", 23 PA0-WKUP(PA0) (io) "PA0-WKUP(PA0)/USART2_CTS/UART4_TX/ETH_MII_CRS/TIM2_CH1_ETR/TIM5_CH1/TIM8_ETR/EVENTOUT/ADC123_IN0/WKUP", 24 PA1 (io) "PA1/USART2_RTS/UART4_RX/ETH_RMII_REF_CLK/ETH_MII_RX_CLK/TIM5_CH2/TIM2_CH2/EVENTOUT/ADC123_IN1", 25 PA2 (io) "PA2/USART2_TX/TIM5_CH3/TIM9_CH1/TIM2_CH3/ETH_MDIO/EVENTOUT/ADC123_IN2", 26 PA3 (io) "PA3/USART2_RX/TIM5_CH4/TIM9_CH2/TIM2_CH4/OTG_HS_ULPI_D0/ETH_MII_COL/EVENTOUT/ADC123_IN3", 29 PA4 (io) "PA4/SPI1_NSS/SPI3_NSS/USART2_CK/DCMI_HSYNC/OTG_HS_SOF/I2S3_WS/EVENTOUT/ADC12_IN4/DAC_OUT1", 30 PA5 (io) "PA5/SPI1_SCK/OTG_HS_ULPI_CK/TIM2_CH1_ETR/TIM8_CH1N/EVENTOUT/ADC12_IN5/DAC_OUT2", 31 PA6 (io) "PA6/SPI1_MISO/TIM8_BKIN/TIM13_CH1/DCMI_PIXCLK/TIM3_CH1/TIM1_BKIN/EVENTOUT/ADC12_IN6", 32 PA7 (io) "PA7/SPI1_MOSI/TIM8_CH1N/TIM14_CH1/TIM3_CH2/ETH_MII_RX_DV/TIM1_CH1N/ETH_RMII_CRS_DV/EVENTOUT/ADC12_IN7", 33 PC4 (io) "PC4/ETH_RMII_RX_D0/ETH_MII_RX_D0/EVENTOUT/ADC12_IN14", 34 PC5 (io) "PC5/ETH_RMII_RX_D1/ETH_MII_RX_D1/EVENTOUT/ADC12_IN15", 35 PB0 (io) "PB0/TIM3_CH3/TIM8_CH2N/OTG_HS_ULPI_D1/ETH_MII_RXD2/TIM1_CH2N/EVENTOUT/ADC12_IN8", 36 PB1 (io) "PB1/TIM3_CH4/TIM8_CH3N/OTG_HS_ULPI_D2/ETH_MII_RXD3/TIM1_CH3N/EVENTOUT/ADC12_IN9", 37 PB2/BOOT1(PB2) (io) "PB2/PB2-BOOT1/EVENTOUT", 38 PE7 (io) "PE7/FSMC_D4/TIM1_ETR/EVENTOUT", 39 PE8 (io) "PE8/FSMC_D5/TIM1_CH1N/EVENTOUT", 40 PE9 (io) "PE9/FSMC_D6/TIM1_CH1/EVENTOUT", 41 PE10 (io) "PE10/FSMC_D7/TIM1_CH2N/EVENTOUT", 42 PE11 (io) "PE11/FSMC_D8/TIM1_CH2/EVENTOUT", 43 PE12 (io) "PE12/FSMC_D9/TIM1_CH3N/EVENTOUT", 44 PE13 (io) "PE13/FSMC_D10/TIM1_CH3/EVENTOUT", 45 PE14 (io) "PE14/FSMC_D11/TIM1_CH4/EVENTOUT", 46 PE15 (io) "PE15/FSMC_D12/TIM1_BKIN/EVENTOUT", 47 PB10 (io) "PB10/SPI2_SCK/I2S2_SCK/I2C2_SCL/USART3_TX/OTG_HS_ULPI_D3/ETH_MII_RX_ER/TIM2_CH3/EVENTOUT", 48 PB11 (io) "PB11/I2C2_SDA/USART3_RX/OTG_HS_ULPI_D4/ETH_RMII_TX_EN/ETH_MII_TX_EN/TIM2_CH4/EVENTOUT", 49 VCAP_1 (power), 51 PB12 (io) "PB12/SPI2_NSS/I2S2_WS/I2C2_SMBA/USART3_CK/TIM1_BKIN/CAN2_RX/OTG_HS_ULPI_D5/ETH_RMII_TXD0/ETH_MII_TXD0/OTG_HS_ID/EVENTOUT", 52 PB13 (io) "PB13/SPI2_SCK/I2S2_SCK/USART3_CTS/TIM1_CH1N/CAN2_TX/OTG_HS_ULPI_D6/ETH_RMII_TXD1/ETH_MII_TXD1/EVENTOUT/OTG_HS_VBUS", 53 PB14 (io) "PB14/SPI2_MISO/TIM1_CH2N/TIM12_CH1/OTG_HS_DM/USART3_RTS/TIM8_CH2N/EVENTOUT", 54 PB15 (io) "PB15/SPI2_MOSI/I2S2_SD/TIM1_CH3N/TIM8_CH3N/TIM12_CH2/OTG_HS_DP/RTC_50Hz/EVENTOUT", 55 PD8 (io) "PD8/FSMC_D13/USART3_TX/EVENTOUT", 56 PD9 (io) "PD9/FSMC_D14/USART3_RX/EVENTOUT", 57 PD10 (io) "PD10/FSMC_D15/USART3_CK/EVENTOUT", 58 PD11 (io) "PD11/FSMC_A16/USART3_CTS/EVENTOUT", 59 PD12 (io) "PD12/FSMC_A17/TIM4_CH1/USART3_RTS/EVENTOUT", 60 PD13 (io) "PD13/FSMC_A18/TIM4_CH2/EVENTOUT", 61 PD14 (io) "PD14/FSMC_D0/TIM4_CH3/EVENTOUT", 62 PD15 (io) "PD15/FSMC_D1/TIM4_CH4/EVENTOUT", 63 PC6 (io) "PC6/I2S2_MCK/TIM8_CH1/SDIO_D6/USART6_TX/DCMI_D0/TIM3_CH1/EVENTOUT", 64 PC7 (io) "PC7/I2S3_MCK/TIM8_CH2/SDIO_D7/USART6_RX/DCMI_D1/TIM3_CH2/EVENTOUT", 65 PC8 (io) "PC8/TIM8_CH3/SDIO_D0/TIM3_CH3/USART6_CK/DCMI_D2/EVENTOUT", 66 PC9 (io) "PC9/I2S2_CKIN/I2S3_CKIN/MCO2/TIM8_CH4/SDIO_D1/I2C3_SDA/DCMI_D3/TIM3_CH4/EVENTOUT", 67 PA8 (io) "PA8/MCO1/USART1_CK/TIM1_CH1/I2C3_SCL/OTG_FS_SOF/EVENTOUT", 68 PA9 (io) "PA9/USART1_TX/TIM1_CH2/I2C3_SMBA/DCMI_D0/EVENTOUT/OTG_FS_VBUS", 69 PA10 (io) "PA10/USART1_RX/TIM1_CH3/OTG_FS_ID/DCMI_D1/EVENTOUT", 70 PA11 (io) "PA11/USART1_CTS/CAN1_RX/TIM1_CH4/OTG_FS_DM/EVENTOUT", 71 PA12 (io) "PA12/USART1_RTS/CAN1_TX/TIM1_ETR/OTG_FS_DP/EVENTOUT", 72 PA13(JTMS-SWDIO) (io) "PA13/JTMS-SWDIO/EVENTOUT", 73 VCAP_2 (power), 76 PA14(JTCK-SWCLK) (io) "PA14/JTCK-SWCLK/EVENTOUT", 77 PA15(JTDI) (io) "PA15/JTDI/SPI3_NSS/I2S3_WS/TIM2_CH1_ETR/SPI1_NSS/EVENTOUT", 78 PC10 (io) "PC10/SPI3_SCK/I2S3_SCK/UART4_TX/SDIO_D2/DCMI_D8/USART3_TX/EVENTOUT", 79 PC11 (io) "PC11/UART4_RX/SPI3_MISO/SDIO_D3/DCMI_D4/USART3_RX/EVENTOUT", 80 PC12 (io) "PC12/UART5_TX/SDIO_CK/DCMI_D9/SPI3_MOSI/I2S3_SD/USART3_CK/EVENTOUT", 81 PD0 (io) "PD0/FSMC_D2/CAN1_RX/EVENTOUT", 82 PD1 (io) "PD1/FSMC_D3/CAN1_TX/EVENTOUT", 83 PD2 (io) "PD2/TIM3_ETR/UART5_RX/SDIO_CMD/DCMI_D11/EVENTOUT", 84 PD3 (io) "PD3/FSMC_CLK/USART2_CTS/EVENTOUT", 85 PD4 (io) "PD4/FSMC_NOE/USART2_RTS/EVENTOUT", 86 PD5 (io) "PD5/FSMC_NWE/USART2_TX/EVENTOUT", 87 PD6 (io) "PD6/FSMC_NWAIT/USART2_RX/EVENTOUT", 88 PD7 (io) "PD7/USART2_CK/FSMC_NE1/FSMC_NCE2/EVENTOUT", 89 PB3(JTDO/TRACESWO) (io) "PB3/JTDO/TRACESWO/SPI3_SCK/I2S3_SCK/TIM2_CH2/SPI1_SCK/EVENTOUT", 90 PB4 (io) "PB4/NJTRST/SPI3_MISO/TIM3_CH1/SPI1_MISO/EVENTOUT", 91 PB5 (io) "PB5/I2C1_SMBA/CAN2_RX/OTG_HS_ULPI_D7/ETH_PPS_OUT/TIM3_CH2/SPI1_MOSI/SPI3_MOSI/DCMI_D10/I2S3_SD/EVENTOUT", 92 PB6 (io) "PB6/I2C1_SCL/TIM4_CH1/CAN2_TX/DCMI_D5/USART1_TX/EVENTOUT", 93 PB7 (io) "PB7/I2C1_SDA/FSMC_NL/DCMI_VSYNC/USART1_RX/TIM4_CH2/EVENTOUT", 94 BOOT0 (in) "BOOT0/VPP", 95 PB8 (io) "PB8/TIM4_CH3/SDIO_D4/TIM10_CH1/DCMI_D6/ETH_MII_TXD3/I2C1_SCL/CAN1_RX/EVENTOUT", 96 PB9 (io) "PB9/SPI2_NSS/I2S2_WS/TIM4_CH4/TIM11_CH1/SDIO_D5/DCMI_D7/I2C1_SDA/CAN1_TX/EVENTOUT", 97 PE0 (io) "PE0/TIM4_ETR/FSMC_NBL0/DCMI_D2/EVENTOUT", 98 PE1 (io) "PE1/FSMC_NBL1/DCMI_D3/EVENTOUT", 99 RFU
part B pins: 6 VBAT (power), 10 VSS_5 (power), 11 VDD_5 (power), 19 VDD_12 (power), 20 VSSA (power), 21 VREF+ (power), 22 VDDA (power), 27 VSS_4 (power), 28 VDD_4 (power), 50 VDD_1 (power), 74 VSS_2 (power), 75 VDD_2 (power), 100 VDD_3 (power)

## STM32F217ZET6
designator U?
ARM Cortex-M3 32-bit MCU, 512 KB Flash, 128 KB Internal RAM, 114 I/Os, 144-pin LQFP, -40 to 85 degC, Tray; PartNumber: STM32F217ZET6; D/A Converter: 2x12-bit (2 Channel); FLASH Size (Prog) (kB): 512; I/Os (High Current): 114; Internal RAM Size (kB): 128; Operating Frequency(F) (Processor speed) (MHz): 120; Supply Voltage(Vcc) min (V): 1.8; DatasheetVersion: Rev. 8; PackageVersion: Rev. 4, 06/2013; PackageReference: LQFP144; PackageDescription: 144-Pin Low Profile Quad Flat Package, 20 x 20 mm Body, 0.5 mm Pitch; Supplier 1: Digi-Key; Supplier Part Number 1: 497-11188-ND; Supplier 2: Farnell; Supplier Part Number 2: 2333245; Supplier 3: Newark; Supplier Part Number 3: 99W9863; Core: ARM Cortex-M3; Packing: Tray; Mounting Technology: Surface Mount; ComponentLink1Description: Manufacturer URL; ComponentLink1URL: http://www.st.com/web/en/home.html; ComponentLink2Description: Datasheet; ComponentLink2URL: http://www.st.com/st-web-ui/static/active/en/resource/technical/document/datasheet/CD00263874.pdf; ComponentLink3Description: Package Specification; ComponentLink3URL: http://www.st.com/st-web-ui/static/active/en/resource/technical/document/datasheet/DM00037051.pdf
footprint STM-LQFP144_N (Thin QFP, 144-Leads, Body 20x20mm, Pitch 0.5mm, IPC Medium Density)
footprint STM-LQFP144_L (Thin QFP, 144-Leads, Body 20x20mm, Pitch 0.5mm, IPC High Density)
footprint STM-LQFP144_M (Thin QFP, 144-Leads, Body 20x20mm, Pitch 0.5mm, IPC Low Density)
footprint STM-LQFP144_V (Thin QFP, 144-Leads, Body 20x20mm, Pitch 0.5mm, ST Recommended)
part A pins: 7 PC13 (io) "PC13/EVENTOUT/RTC_AF1", 8 PC14-OSC32_IN(PC14) (io) "PC14-OSC32_IN/PC14/EVENTOUT/OSC32_IN", 9 PC15-OSC32_OUT(PC15) (io) "PC15-OSC32_OUT/PC15/EVENTOUT/OSC32_OUT", 26 PC0 (io) "PC0/OTG_HS_ULPI_STP/EVENTOUT/ADC123_IN10", 27 PC1 (io) "PC1/ETH_MDC/EVENTOUT/ADC123_IN11", 28 PC2 (io) "PC2/SPI2_MISO/OTG_HS_ULPI_DIR/ETH_MII_TXD2/EVENTOUT/ADC123_IN12", 29 PC3 (io) "PC3/SPI2_MOSI/I2S2_SD/OTG_HS_ULPI_NXT/ETH_MII_TX_CLK/EVENTOUT/ADC123_IN13", 34 PA0-WKUP(PA0) (io) "PA0-WKUP(PA0)/USART2_CTS/UART4_TX/ETH_MII_CRS/TIM2_CH1_ETR/TIM5_CH1/TIM8_ETR/EVENTOUT/ADC123_IN0/WKUP", 35 PA1 (io) "PA1/USART2_RTS/UART4_RX/ETH_RMII_REF_CLK/ETH_MII_RX_CLK/TIM5_CH2/TIM2_CH2/EVENTOUT/ADC123_IN1", 36 PA2 (io) "PA2/USART2_TX/TIM5_CH3/TIM9_CH1/TIM2_CH3/ETH_MDIO/EVENTOUT/ADC123_IN2", 37 PA3 (io) "PA3/USART2_RX/TIM5_CH4/TIM9_CH2/TIM2_CH4/OTG_HS_ULPI_D0/ETH_MII_COL/EVENTOUT/ADC123_IN3", 40 PA4 (io) "PA4/SPI1_NSS/SPI3_NSS/USART2_CK/DCMI_HSYNC/OTG_HS_SOF/I2S3_WS/EVENTOUT/ADC12_IN4/DAC_OUT1", 41 PA5 (io) "PA5/SPI1_SCK/OTG_HS_ULPI_CK/TIM2_CH1_ETR/TIM8_CH1N/EVENTOUT/ADC12_IN5/DAC_OUT2", 42 PA6 (io) "PA6/SPI1_MISO/TIM8_BKIN/TIM13_CH1/DCMI_PIXCLK/TIM3_CH1/TIM1_BKIN/EVENTOUT/ADC12_IN6", 43 PA7 (io) "PA7/SPI1_MOSI/TIM8_CH1N/TIM14_CH1/TIM3_CH2/ETH_MII_RX_DV/TIM1_CH1N/ETH_RMII_CRS_DV/EVENTOUT/ADC12_IN7", 44 PC4 (io) "PC4/ETH_RMII_RX_D0/ETH_MII_RX_D0/EVENTOUT/ADC12_IN14", 45 PC5 (io) "PC5/ETH_RMII_RX_D1/ETH_MII_RX_D1/EVENTOUT/ADC12_IN15", 46 PB0 (io) "PB0/TIM3_CH3/TIM8_CH2N/OTG_HS_ULPI_D1/ETH_MII_RXD2/TIM1_CH2N/EVENTOUT/ADC12_IN8", 47 PB1 (io) "PB1/TIM3_CH4/TIM8_CH3N/OTG_HS_ULPI_D2/ETH_MII_RXD3/TIM1_CH3N/EVENTOUT/ADC12_IN9", 48 PB2/BOOT1(PB2) (io) "PB2/PB2-BOOT1/EVENTOUT", 69 PB10 (io) "PB10/SPI2_SCK/I2S2_SCK/I2C2_SCL/USART3_TX/OTG_HS_ULPI_D3/ETH_MII_RX_ER/TIM2_CH3/EVENTOUT", 70 PB11 (io) "PB11/I2C2_SDA/USART3_RX/OTG_HS_ULPI_D4/ETH_RMII_TX_EN/ETH_MII_TX_EN/TIM2_CH4/EVENTOUT", 73 PB12 (io) "PB12/SPI2_NSS/I2S2_WS/I2C2_SMBA/USART3_CK/TIM1_BKIN/CAN2_RX/OTG_HS_ULPI_D5/ETH_RMII_TXD0/ETH_MII_TXD0/OTG_HS_ID/EVENTOUT", 74 PB13 (io) "PB13/SPI2_SCK/I2S2_SCK/USART3_CTS/TIM1_CH1N/CAN2_TX/OTG_HS_ULPI_D6/ETH_RMII_TXD1/ETH_MII_TXD1/EVENTOUT/OTG_HS_VBUS", 75 PB14 (io) "PB14/SPI2_MISO/TIM1_CH2N/TIM12_CH1/OTG_HS_DM/USART3_RTS/TIM8_CH2N/EVENTOUT", 76 PB15 (io) "PB15/SPI2_MOSI/I2S2_SD/TIM1_CH3N/TIM8_CH3N/TIM12_CH2/OTG_HS_DP/RTC_50Hz/EVENTOUT", 77 PD8 (io) "PD8/FSMC_D13/USART3_TX/EVENTOUT", 78 PD9 (io) "PD9/FSMC_D14/USART3_RX/EVENTOUT", 79 PD10 (io) "PD10/FSMC_D15/USART3_CK/EVENTOUT", 80 PD11 (io) "PD11/FSMC_A16/USART3_CTS/EVENTOUT", 81 PD12 (io) "PD12/FSMC_A17/TIM4_CH1/USART3_RTS/EVENTOUT", 82 PD13 (io) "PD13/FSMC_A18/TIM4_CH2/EVENTOUT", 85 PD14 (io) "PD14/FSMC_D0/TIM4_CH3/EVENTOUT", 86 PD15 (io) "PD15/FSMC_D1/TIM4_CH4/EVENTOUT", 96 PC6 (io) "PC6/I2S2_MCK/TIM8_CH1/SDIO_D6/USART6_TX/DCMI_D0/TIM3_CH1/EVENTOUT", 97 PC7 (io) "PC7/I2S3_MCK/TIM8_CH2/SDIO_D7/USART6_RX/DCMI_D1/TIM3_CH2/EVENTOUT", 98 PC8 (io) "PC8/TIM8_CH3/SDIO_D0/TIM3_CH3/USART6_CK/DCMI_D2/EVENTOUT", 99 PC9 (io) "PC9/I2S2_CKIN/I2S3_CKIN/MCO2/TIM8_CH4/SDIO_D1/I2C3_SDA/DCMI_D3/TIM3_CH4/EVENTOUT", 100 PA8 (io) "PA8/MCO1/USART1_CK/TIM1_CH1/I2C3_SCL/OTG_FS_SOF/EVENTOUT", 101 PA9 (io) "PA9/USART1_TX/TIM1_CH2/I2C3_SMBA/DCMI_D0/EVENTOUT/OTG_FS_VBUS", 102 PA10 (io) "PA10/USART1_RX/TIM1_CH3/OTG_FS_ID/DCMI_D1/EVENTOUT", 103 PA11 (io) "PA11/USART1_CTS/CAN1_RX/TIM1_CH4/OTG_FS_DM/EVENTOUT", 104 PA12 (io) "PA12/USART1_RTS/CAN1_TX/TIM1_ETR/OTG_FS_DP/EVENTOUT", 105 PA13(JTMS-SWDIO) (io) "PA13/JTMS-SWDIO/EVENTOUT", 109 PA14(JTCK-SWCLK) (io) "PA14/JTCK-SWCLK/EVENTOUT", 110 PA15(JTDI) (io) "PA15/JTDI/SPI3_NSS/I2S3_WS/TIM2_CH1_ETR/SPI1_NSS/EVENTOUT", 111 PC10 (io) "PC10/SPI3_SCK/I2S3_SCK/UART4_TX/SDIO_D2/DCMI_D8/USART3_TX/EVENTOUT", 112 PC11 (io) "PC11/UART4_RX/SPI3_MISO/SDIO_D3/DCMI_D4/USART3_RX/EVENTOUT", 113 PC12 (io) "PC12/UART5_TX/SDIO_CK/DCMI_D9/SPI3_MOSI/I2S3_SD/USART3_CK/EVENTOUT", 114 PD0 (io) "PD0/FSMC_D2/CAN1_RX/EVENTOUT", 115 PD1 (io) "PD1/FSMC_D3/CAN1_TX/EVENTOUT", 116 PD2 (io) "PD2/TIM3_ETR/UART5_RX/SDIO_CMD/DCMI_D11/EVENTOUT", 117 PD3 (io) "PD3/FSMC_CLK/USART2_CTS/EVENTOUT", 118 PD4 (io) "PD4/FSMC_NOE/USART2_RTS/EVENTOUT", 119 PD5 (io) "PD5/FSMC_NWE/USART2_TX/EVENTOUT", 122 PD6 (io) "PD6/FSMC_NWAIT/USART2_RX/EVENTOUT", 123 PD7 (io) "PD7/USART2_CK/FSMC_NE1/FSMC_NCE2/EVENTOUT", 133 PB3(JTDO/TRACESWO) (io) "PB3/JTDO/TRACESWO/SPI3_SCK/I2S3_SCK/TIM2_CH2/SPI1_SCK/EVENTOUT", 134 PB4 (io) "PB4/NJTRST/SPI3_MISO/TIM3_CH1/SPI1_MISO/EVENTOUT", 135 PB5 (io) "PB5/I2C1_SMBA/CAN2_RX/OTG_HS_ULPI_D7/ETH_PPS_OUT/TIM3_CH2/SPI1_MOSI/SPI3_MOSI/DCMI_D10/I2S3_SD/EVENTOUT", 136 PB6 (io) "PB6/I2C1_SCL/TIM4_CH1/CAN2_TX/DCMI_D5/USART1_TX/EVENTOUT", 137 PB7 (io) "PB7/I2C1_SDA/FSMC_NL/DCMI_VSYNC/USART1_RX/TIM4_CH2/EVENTOUT", 139 PB8 (io) "PB8/TIM4_CH3/SDIO_D4/TIM10_CH1/DCMI_D6/ETH_MII_TXD3/I2C1_SCL/CAN1_RX/EVENTOUT", 140 PB9 (io) "PB9/SPI2_NSS/I2S2_WS/TIM4_CH4/TIM11_CH1/SDIO_D5/DCMI_D7/I2C1_SDA/CAN1_TX/EVENTOUT"
part B pins: 1 PE2 (io) "PE2/TRACECLK/FSMC_A23/ETH_MII_TXD3/EVENTOUT", 2 PE3 (io) "PE3/TRACED0/FSMC_A19/EVENTOUT", 3 PE4 (io) "PE4/TRACED1/FSMC_A20/DCMI_D4/EVENTOUT", 4 PE5 (io) "PE5/TRACED2/FSMC_A21/TIM9_CH1/DCMI_D6/EVENTOUT", 5 PE6 (io) "PE6/TRACED3/FSMC_A22/TIM9_CH2/DCMI_D7/EVENTOUT", 10 PF0 (io) "PF0/FSMC_A0/I2C2_SDA/EVENTOUT", 11 PF1 (io) "PF1/FSMC_A1/I2C2_SCL/EVENTOUT", 12 PF2 (io) "PF2/FSMC_A2/I2C2_SMBA/EVENTOUT", 13 PF3 (io) "PF3/FSMC_A3/EVENTOUT/ADC3_IN9", 14 PF4 (io) "PF4/FSMC_A4/EVENTOUT/ADC3_IN14", 15 PF5 (io) "PF5/FSMC_A5/EVENTOUT/ADC3_IN15", 18 PF6 (io) "PF6/TIM10_CH1/FSMC_NIORD/EVENTOUT/ADC3_IN4", 19 PF7 (io) "PF7/TIM11_CH1/FSMC_NREG/EVENTOUT/ADC3_IN5", 20 PF8 (io) "PF8/TIM13_CH1/FSMC_NIOWR/EVENTOUT/ADC3_IN6", 21 PF9 (io) "PF9/TIM14_CH1/FSMC_CD/EVENTOUT/ADC3_IN7", 22 PF10 (io) "PF10/FSMC_INTR/EVENTOUT/ADC3_IN8", 23 PH0-OSC_IN(PH0) (io) "PH0-OSC_IN(PH0)/PH0/EVENTOUT/OSC_IN", 24 PH1-OSC_OUT(PH1) (io) "PH1-OSC_OUT(PH1)/PH1/EVENTOUT/OSC_OUT", 25 NRST (io), 49 PF11 (io) "PF11/DCMI_12/EVENTOUT", 50 PF12 (io) "PF12/FSMC_A6/EVENTOUT", 53 PF13 (io) "PF13/FSMC_A7/EVENTOUT", 54 PF14 (io) "PF14/FSMC_A8/EVENTOUT", 55 PF15 (io) "PF15/FSMC_A9/EVENTOUT", 56 PG0 (io) "PG0/FSMC_A10/EVENTOUT", 57 PG1 (io) "PG1/FSMC_A11/EVENTOUT", 58 PE7 (io) "PE7/FSMC_D4/TIM1_ETR/EVENTOUT", 59 PE8 (io) "PE8/FSMC_D5/TIM1_CH1N/EVENTOUT", 60 PE9 (io) "PE9/FSMC_D6/TIM1_CH1/EVENTOUT", 63 PE10 (io) "PE10/FSMC_D7/TIM1_CH2N/EVENTOUT", 64 PE11 (io) "PE11/FSMC_D8/TIM1_CH2/EVENTOUT", 65 PE12 (io) "PE12/FSMC_D9/TIM1_CH3N/EVENTOUT", 66 PE13 (io) "PE13/FSMC_D10/TIM1_CH3/EVENTOUT", 67 PE14 (io) "PE14/FSMC_D11/TIM1_CH4/EVENTOUT", 68 PE15 (io) "PE15/FSMC_D12/TIM1_BKIN/EVENTOUT", 71 VCAP_1 (power), 87 PG2 (io) "PG2/FSMC_A12/EVENTOUT", 88 PG3 (io) "PG3/FSMC_A13/EVENTOUT", 89 PG4 (io) "PG4/FSMC_A14/EVENTOUT", 90 PG5 (io) "PG5/FSMC_A15/EVENTOUT", 91 PG6 (io) "PG6/FSMC_INT2/EVENTOUT", 92 PG7 (io) "PG7/FSMC_INT3/USART6_CK/EVENTOUT", 93 PG8 (io) "PG8/USART6_RTS/ETH_PPS_OUT/EVENTOUT", 106 VCAP_2 (power), 124 PG9 (io) "PG9/USART6_RX/FSMC_NE2/FSMC_NCE3/EVENTOUT", 125 PG10 (io) "PG10/FSMC_NCE4_1/FSMC_NE3/EVENTOUT", 126 PG11 (io) "PG11/FSMC_NCE4_2/ETH_MII_TX_EN/ETH_RMII_TX_EN/EVENTOUT", 127 PG12 (io) "PG12/FSMC_NE4/USART6_RTS/EVENTOUT", 128 PG13 (io) "PG13/FSMC_A24/USART6_CTS/ETH_MII_TXD0/ETH_RMII_TXD0/EVENTOUT", 129 PG14 (io) "PG14/FSMC_A25/USART6_TX/ETH_MII_TXD1/ETH_RMII_TXD1/EVENTOUT", 132 PG15 (io) "PG15/USART6_CTS/DCMI_D13/EVENTOUT", 138 BOOT0 (in) "BOOT0/VPP", 141 PE0 (io) "PE0/TIM4_ETR/FSMC_NBL0/DCMI_D2/EVENTOUT", 142 PE1 (io) "PE1/FSMC_NBL1/DCMI_D3/EVENTOUT", 143 RFU
part C pins: 6 VBAT (power), 16 VSS_5 (power), 17 VDD_5 (power), 30 VDD_12 (power), 31 VSSA (power), 32 VREF+ (power), 33 VDDA (power), 38 VSS_4 (power), 39 VDD_4 (power), 51 VSS_6 (power), 52 VDD_6 (power), 61 VSS_7 (power), 62 VDD_7 (power), 72 VDD_1 (power), 83 VSS_8 (power), 84 VDD_8 (power), 94 VSS_9 (power), 95 VDD_9 (power), 107 VSS_2 (power), 108 VDD_2 (power), 120 VSS_10 (power), 121 VDD_10 (power), 130 VSS_11 (power), 131 VDD_11 (power), 144 VDD_3 (power)

## STM32F217ZET7
designator U?
ARM Cortex-M3 32-bit MCU, 512 KB Flash, 128 KB Internal RAM, 114 I/Os, 144-pin LQFP, -40 to 105 degC, Tray; PartNumber: STM32F217ZET7; D/A Converter: 2x12-bit (2 Channel); FLASH Size (Prog) (kB): 512; I/Os (High Current): 114; Internal RAM Size (kB): 128; Operating Frequency(F) (Processor speed) (MHz): 120; Supply Voltage(Vcc) min (V): 1.8; DatasheetVersion: Rev. 8; PackageVersion: Rev. 4, 06/2013; PackageReference: LQFP144; PackageDescription: 144-Pin Low Profile Quad Flat Package, 20 x 20 mm Body, 0.5 mm Pitch; Supplier 1: Mouser; Supplier Part Number 1: N/A; Core: ARM Cortex-M3; Packing: Tray; Mounting Technology: Surface Mount; ComponentLink1Description: Manufacturer URL; ComponentLink1URL: http://www.st.com/web/en/home.html; ComponentLink2Description: Datasheet; ComponentLink2URL: http://www.st.com/st-web-ui/static/active/en/resource/technical/document/datasheet/CD00263874.pdf; ComponentLink3Description: Package Specification; ComponentLink3URL: http://www.st.com/st-web-ui/static/active/en/resource/technical/document/datasheet/DM00037051.pdf
footprint STM-LQFP144_N (Thin QFP, 144-Leads, Body 20x20mm, Pitch 0.5mm, IPC Medium Density)
footprint STM-LQFP144_L (Thin QFP, 144-Leads, Body 20x20mm, Pitch 0.5mm, IPC High Density)
footprint STM-LQFP144_M (Thin QFP, 144-Leads, Body 20x20mm, Pitch 0.5mm, IPC Low Density)
footprint STM-LQFP144_V (Thin QFP, 144-Leads, Body 20x20mm, Pitch 0.5mm, ST Recommended)
part A pins: 7 PC13 (io) "PC13/EVENTOUT/RTC_AF1", 8 PC14-OSC32_IN(PC14) (io) "PC14-OSC32_IN/PC14/EVENTOUT/OSC32_IN", 9 PC15-OSC32_OUT(PC15) (io) "PC15-OSC32_OUT/PC15/EVENTOUT/OSC32_OUT", 26 PC0 (io) "PC0/OTG_HS_ULPI_STP/EVENTOUT/ADC123_IN10", 27 PC1 (io) "PC1/ETH_MDC/EVENTOUT/ADC123_IN11", 28 PC2 (io) "PC2/SPI2_MISO/OTG_HS_ULPI_DIR/ETH_MII_TXD2/EVENTOUT/ADC123_IN12", 29 PC3 (io) "PC3/SPI2_MOSI/I2S2_SD/OTG_HS_ULPI_NXT/ETH_MII_TX_CLK/EVENTOUT/ADC123_IN13", 34 PA0-WKUP(PA0) (io) "PA0-WKUP(PA0)/USART2_CTS/UART4_TX/ETH_MII_CRS/TIM2_CH1_ETR/TIM5_CH1/TIM8_ETR/EVENTOUT/ADC123_IN0/WKUP", 35 PA1 (io) "PA1/USART2_RTS/UART4_RX/ETH_RMII_REF_CLK/ETH_MII_RX_CLK/TIM5_CH2/TIM2_CH2/EVENTOUT/ADC123_IN1", 36 PA2 (io) "PA2/USART2_TX/TIM5_CH3/TIM9_CH1/TIM2_CH3/ETH_MDIO/EVENTOUT/ADC123_IN2", 37 PA3 (io) "PA3/USART2_RX/TIM5_CH4/TIM9_CH2/TIM2_CH4/OTG_HS_ULPI_D0/ETH_MII_COL/EVENTOUT/ADC123_IN3", 40 PA4 (io) "PA4/SPI1_NSS/SPI3_NSS/USART2_CK/DCMI_HSYNC/OTG_HS_SOF/I2S3_WS/EVENTOUT/ADC12_IN4/DAC_OUT1", 41 PA5 (io) "PA5/SPI1_SCK/OTG_HS_ULPI_CK/TIM2_CH1_ETR/TIM8_CH1N/EVENTOUT/ADC12_IN5/DAC_OUT2", 42 PA6 (io) "PA6/SPI1_MISO/TIM8_BKIN/TIM13_CH1/DCMI_PIXCLK/TIM3_CH1/TIM1_BKIN/EVENTOUT/ADC12_IN6", 43 PA7 (io) "PA7/SPI1_MOSI/TIM8_CH1N/TIM14_CH1/TIM3_CH2/ETH_MII_RX_DV/TIM1_CH1N/ETH_RMII_CRS_DV/EVENTOUT/ADC12_IN7", 44 PC4 (io) "PC4/ETH_RMII_RX_D0/ETH_MII_RX_D0/EVENTOUT/ADC12_IN14", 45 PC5 (io) "PC5/ETH_RMII_RX_D1/ETH_MII_RX_D1/EVENTOUT/ADC12_IN15", 46 PB0 (io) "PB0/TIM3_CH3/TIM8_CH2N/OTG_HS_ULPI_D1/ETH_MII_RXD2/TIM1_CH2N/EVENTOUT/ADC12_IN8", 47 PB1 (io) "PB1/TIM3_CH4/TIM8_CH3N/OTG_HS_ULPI_D2/ETH_MII_RXD3/TIM1_CH3N/EVENTOUT/ADC12_IN9", 48 PB2/BOOT1(PB2) (io) "PB2/PB2-BOOT1/EVENTOUT", 69 PB10 (io) "PB10/SPI2_SCK/I2S2_SCK/I2C2_SCL/USART3_TX/OTG_HS_ULPI_D3/ETH_MII_RX_ER/TIM2_CH3/EVENTOUT", 70 PB11 (io) "PB11/I2C2_SDA/USART3_RX/OTG_HS_ULPI_D4/ETH_RMII_TX_EN/ETH_MII_TX_EN/TIM2_CH4/EVENTOUT", 73 PB12 (io) "PB12/SPI2_NSS/I2S2_WS/I2C2_SMBA/USART3_CK/TIM1_BKIN/CAN2_RX/OTG_HS_ULPI_D5/ETH_RMII_TXD0/ETH_MII_TXD0/OTG_HS_ID/EVENTOUT", 74 PB13 (io) "PB13/SPI2_SCK/I2S2_SCK/USART3_CTS/TIM1_CH1N/CAN2_TX/OTG_HS_ULPI_D6/ETH_RMII_TXD1/ETH_MII_TXD1/EVENTOUT/OTG_HS_VBUS", 75 PB14 (io) "PB14/SPI2_MISO/TIM1_CH2N/TIM12_CH1/OTG_HS_DM/USART3_RTS/TIM8_CH2N/EVENTOUT", 76 PB15 (io) "PB15/SPI2_MOSI/I2S2_SD/TIM1_CH3N/TIM8_CH3N/TIM12_CH2/OTG_HS_DP/RTC_50Hz/EVENTOUT", 77 PD8 (io) "PD8/FSMC_D13/USART3_TX/EVENTOUT", 78 PD9 (io) "PD9/FSMC_D14/USART3_RX/EVENTOUT", 79 PD10 (io) "PD10/FSMC_D15/USART3_CK/EVENTOUT", 80 PD11 (io) "PD11/FSMC_A16/USART3_CTS/EVENTOUT", 81 PD12 (io) "PD12/FSMC_A17/TIM4_CH1/USART3_RTS/EVENTOUT", 82 PD13 (io) "PD13/FSMC_A18/TIM4_CH2/EVENTOUT", 85 PD14 (io) "PD14/FSMC_D0/TIM4_CH3/EVENTOUT", 86 PD15 (io) "PD15/FSMC_D1/TIM4_CH4/EVENTOUT", 96 PC6 (io) "PC6/I2S2_MCK/TIM8_CH1/SDIO_D6/USART6_TX/DCMI_D0/TIM3_CH1/EVENTOUT", 97 PC7 (io) "PC7/I2S3_MCK/TIM8_CH2/SDIO_D7/USART6_RX/DCMI_D1/TIM3_CH2/EVENTOUT", 98 PC8 (io) "PC8/TIM8_CH3/SDIO_D0/TIM3_CH3/USART6_CK/DCMI_D2/EVENTOUT", 99 PC9 (io) "PC9/I2S2_CKIN/I2S3_CKIN/MCO2/TIM8_CH4/SDIO_D1/I2C3_SDA/DCMI_D3/TIM3_CH4/EVENTOUT", 100 PA8 (io) "PA8/MCO1/USART1_CK/TIM1_CH1/I2C3_SCL/OTG_FS_SOF/EVENTOUT", 101 PA9 (io) "PA9/USART1_TX/TIM1_CH2/I2C3_SMBA/DCMI_D0/EVENTOUT/OTG_FS_VBUS", 102 PA10 (io) "PA10/USART1_RX/TIM1_CH3/OTG_FS_ID/DCMI_D1/EVENTOUT", 103 PA11 (io) "PA11/USART1_CTS/CAN1_RX/TIM1_CH4/OTG_FS_DM/EVENTOUT", 104 PA12 (io) "PA12/USART1_RTS/CAN1_TX/TIM1_ETR/OTG_FS_DP/EVENTOUT", 105 PA13(JTMS-SWDIO) (io) "PA13/JTMS-SWDIO/EVENTOUT", 109 PA14(JTCK-SWCLK) (io) "PA14/JTCK-SWCLK/EVENTOUT", 110 PA15(JTDI) (io) "PA15/JTDI/SPI3_NSS/I2S3_WS/TIM2_CH1_ETR/SPI1_NSS/EVENTOUT", 111 PC10 (io) "PC10/SPI3_SCK/I2S3_SCK/UART4_TX/SDIO_D2/DCMI_D8/USART3_TX/EVENTOUT", 112 PC11 (io) "PC11/UART4_RX/SPI3_MISO/SDIO_D3/DCMI_D4/USART3_RX/EVENTOUT", 113 PC12 (io) "PC12/UART5_TX/SDIO_CK/DCMI_D9/SPI3_MOSI/I2S3_SD/USART3_CK/EVENTOUT", 114 PD0 (io) "PD0/FSMC_D2/CAN1_RX/EVENTOUT", 115 PD1 (io) "PD1/FSMC_D3/CAN1_TX/EVENTOUT", 116 PD2 (io) "PD2/TIM3_ETR/UART5_RX/SDIO_CMD/DCMI_D11/EVENTOUT", 117 PD3 (io) "PD3/FSMC_CLK/USART2_CTS/EVENTOUT", 118 PD4 (io) "PD4/FSMC_NOE/USART2_RTS/EVENTOUT", 119 PD5 (io) "PD5/FSMC_NWE/USART2_TX/EVENTOUT", 122 PD6 (io) "PD6/FSMC_NWAIT/USART2_RX/EVENTOUT", 123 PD7 (io) "PD7/USART2_CK/FSMC_NE1/FSMC_NCE2/EVENTOUT", 133 PB3(JTDO/TRACESWO) (io) "PB3/JTDO/TRACESWO/SPI3_SCK/I2S3_SCK/TIM2_CH2/SPI1_SCK/EVENTOUT", 134 PB4 (io) "PB4/NJTRST/SPI3_MISO/TIM3_CH1/SPI1_MISO/EVENTOUT", 135 PB5 (io) "PB5/I2C1_SMBA/CAN2_RX/OTG_HS_ULPI_D7/ETH_PPS_OUT/TIM3_CH2/SPI1_MOSI/SPI3_MOSI/DCMI_D10/I2S3_SD/EVENTOUT", 136 PB6 (io) "PB6/I2C1_SCL/TIM4_CH1/CAN2_TX/DCMI_D5/USART1_TX/EVENTOUT", 137 PB7 (io) "PB7/I2C1_SDA/FSMC_NL/DCMI_VSYNC/USART1_RX/TIM4_CH2/EVENTOUT", 139 PB8 (io) "PB8/TIM4_CH3/SDIO_D4/TIM10_CH1/DCMI_D6/ETH_MII_TXD3/I2C1_SCL/CAN1_RX/EVENTOUT", 140 PB9 (io) "PB9/SPI2_NSS/I2S2_WS/TIM4_CH4/TIM11_CH1/SDIO_D5/DCMI_D7/I2C1_SDA/CAN1_TX/EVENTOUT"
part B pins: 1 PE2 (io) "PE2/TRACECLK/FSMC_A23/ETH_MII_TXD3/EVENTOUT", 2 PE3 (io) "PE3/TRACED0/FSMC_A19/EVENTOUT", 3 PE4 (io) "PE4/TRACED1/FSMC_A20/DCMI_D4/EVENTOUT", 4 PE5 (io) "PE5/TRACED2/FSMC_A21/TIM9_CH1/DCMI_D6/EVENTOUT", 5 PE6 (io) "PE6/TRACED3/FSMC_A22/TIM9_CH2/DCMI_D7/EVENTOUT", 10 PF0 (io) "PF0/FSMC_A0/I2C2_SDA/EVENTOUT", 11 PF1 (io) "PF1/FSMC_A1/I2C2_SCL/EVENTOUT", 12 PF2 (io) "PF2/FSMC_A2/I2C2_SMBA/EVENTOUT", 13 PF3 (io) "PF3/FSMC_A3/EVENTOUT/ADC3_IN9", 14 PF4 (io) "PF4/FSMC_A4/EVENTOUT/ADC3_IN14", 15 PF5 (io) "PF5/FSMC_A5/EVENTOUT/ADC3_IN15", 18 PF6 (io) "PF6/TIM10_CH1/FSMC_NIORD/EVENTOUT/ADC3_IN4", 19 PF7 (io) "PF7/TIM11_CH1/FSMC_NREG/EVENTOUT/ADC3_IN5", 20 PF8 (io) "PF8/TIM13_CH1/FSMC_NIOWR/EVENTOUT/ADC3_IN6", 21 PF9 (io) "PF9/TIM14_CH1/FSMC_CD/EVENTOUT/ADC3_IN7", 22 PF10 (io) "PF10/FSMC_INTR/EVENTOUT/ADC3_IN8", 23 PH0-OSC_IN(PH0) (io) "PH0-OSC_IN(PH0)/PH0/EVENTOUT/OSC_IN", 24 PH1-OSC_OUT(PH1) (io) "PH1-OSC_OUT(PH1)/PH1/EVENTOUT/OSC_OUT", 25 NRST (io), 49 PF11 (io) "PF11/DCMI_12/EVENTOUT", 50 PF12 (io) "PF12/FSMC_A6/EVENTOUT", 53 PF13 (io) "PF13/FSMC_A7/EVENTOUT", 54 PF14 (io) "PF14/FSMC_A8/EVENTOUT", 55 PF15 (io) "PF15/FSMC_A9/EVENTOUT", 56 PG0 (io) "PG0/FSMC_A10/EVENTOUT", 57 PG1 (io) "PG1/FSMC_A11/EVENTOUT", 58 PE7 (io) "PE7/FSMC_D4/TIM1_ETR/EVENTOUT", 59 PE8 (io) "PE8/FSMC_D5/TIM1_CH1N/EVENTOUT", 60 PE9 (io) "PE9/FSMC_D6/TIM1_CH1/EVENTOUT", 63 PE10 (io) "PE10/FSMC_D7/TIM1_CH2N/EVENTOUT", 64 PE11 (io) "PE11/FSMC_D8/TIM1_CH2/EVENTOUT", 65 PE12 (io) "PE12/FSMC_D9/TIM1_CH3N/EVENTOUT", 66 PE13 (io) "PE13/FSMC_D10/TIM1_CH3/EVENTOUT", 67 PE14 (io) "PE14/FSMC_D11/TIM1_CH4/EVENTOUT", 68 PE15 (io) "PE15/FSMC_D12/TIM1_BKIN/EVENTOUT", 71 VCAP_1 (power), 87 PG2 (io) "PG2/FSMC_A12/EVENTOUT", 88 PG3 (io) "PG3/FSMC_A13/EVENTOUT", 89 PG4 (io) "PG4/FSMC_A14/EVENTOUT", 90 PG5 (io) "PG5/FSMC_A15/EVENTOUT", 91 PG6 (io) "PG6/FSMC_INT2/EVENTOUT", 92 PG7 (io) "PG7/FSMC_INT3/USART6_CK/EVENTOUT", 93 PG8 (io) "PG8/USART6_RTS/ETH_PPS_OUT/EVENTOUT", 106 VCAP_2 (power), 124 PG9 (io) "PG9/USART6_RX/FSMC_NE2/FSMC_NCE3/EVENTOUT", 125 PG10 (io) "PG10/FSMC_NCE4_1/FSMC_NE3/EVENTOUT", 126 PG11 (io) "PG11/FSMC_NCE4_2/ETH_MII_TX_EN/ETH_RMII_TX_EN/EVENTOUT", 127 PG12 (io) "PG12/FSMC_NE4/USART6_RTS/EVENTOUT", 128 PG13 (io) "PG13/FSMC_A24/USART6_CTS/ETH_MII_TXD0/ETH_RMII_TXD0/EVENTOUT", 129 PG14 (io) "PG14/FSMC_A25/USART6_TX/ETH_MII_TXD1/ETH_RMII_TXD1/EVENTOUT", 132 PG15 (io) "PG15/USART6_CTS/DCMI_D13/EVENTOUT", 138 BOOT0 (in) "BOOT0/VPP", 141 PE0 (io) "PE0/TIM4_ETR/FSMC_NBL0/DCMI_D2/EVENTOUT", 142 PE1 (io) "PE1/FSMC_NBL1/DCMI_D3/EVENTOUT", 143 RFU
part C pins: 6 VBAT (power), 16 VSS_5 (power), 17 VDD_5 (power), 30 VDD_12 (power), 31 VSSA (power), 32 VREF+ (power), 33 VDDA (power), 38 VSS_4 (power), 39 VDD_4 (power), 51 VSS_6 (power), 52 VDD_6 (power), 61 VSS_7 (power), 62 VDD_7 (power), 72 VDD_1 (power), 83 VSS_8 (power), 84 VDD_8 (power), 94 VSS_9 (power), 95 VDD_9 (power), 107 VSS_2 (power), 108 VDD_2 (power), 120 VSS_10 (power), 121 VDD_10 (power), 130 VSS_11 (power), 131 VDD_11 (power), 144 VDD_3 (power)

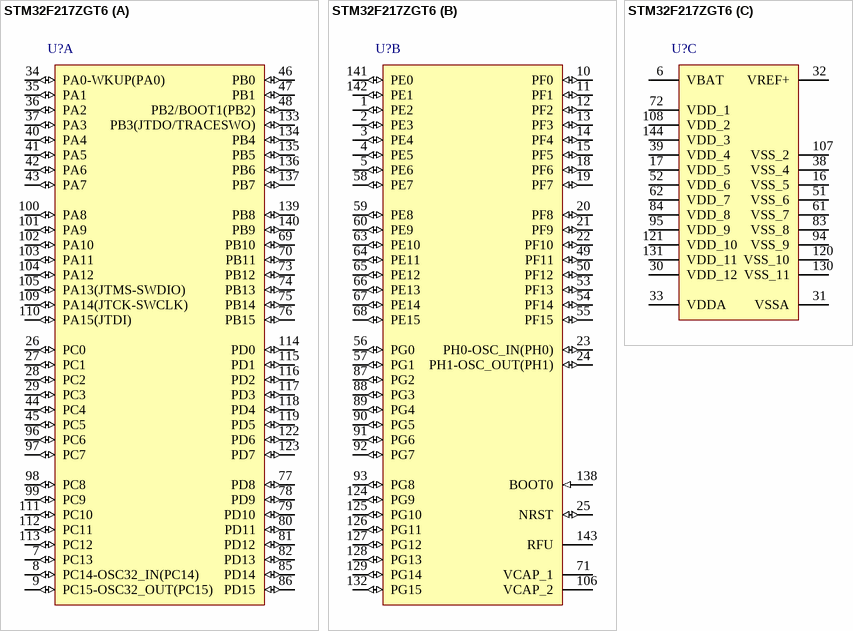
[diagram p24: symbol STM32F217ZGT6]